# Altium integrated library adafruit.IntLib: 666 symbols (part 3 of 4)
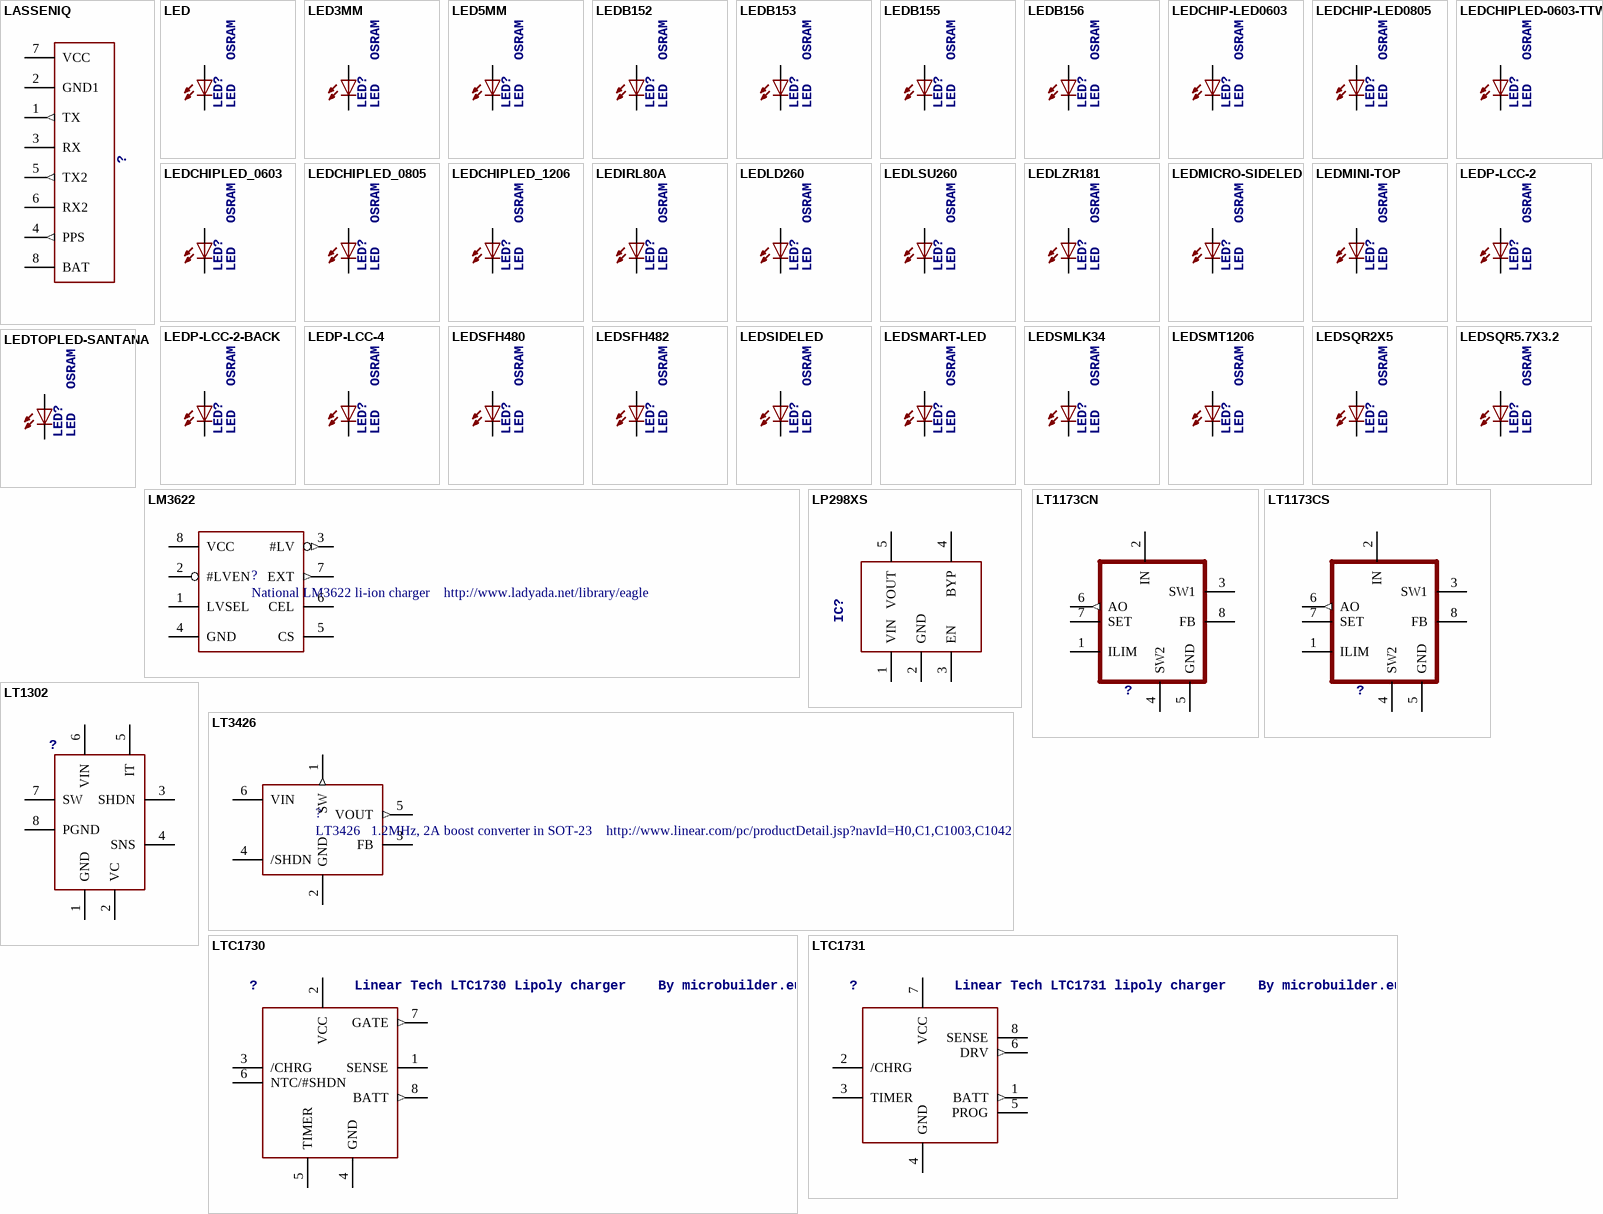
[diagram p33: symbols LASSENIQ to LTC1731]

## LEDP-LCC-4
designator LED?, comment LED   OSRAM: - CHIPLED LG R971, LG N971, LY N971, LG Q971, LY Q971, LO R971, LY R971 LH N974, LH R974 LS Q976, LO Q976, LY Q976 LO Q996 - Hyper CHIPLED LW Q18S LB Q993, LB Q99A, LB R99A - SideLED LS A670, LO A670, LY A670, LG A670, LP A670 LB A673, LV A673, LT A673, LW A673 LH A674 LY A675 LS A676, LA A676, LO A676, LY A676, LW A676 LS A679, LY A679, LG A679 -  Hyper Micro SIDELED® LS Y876, LA Y876, LO Y876, LY Y876 LT Y87S - SmartLED LW L88C, LW L88S LB L89C, LB L89S, LG L890 LS L89K, LO L89K, LY L89K LS L896, LA L896, LO L896, LY L896 - TOPLED LS T670, LO T670, LY T670, LG T670, LP T670 LSG T670, LSP T670, LSY T670, LOP T670, LYG T670 LG T671, LOG T671, LSG T671 LB T673, LV T673, LT T673, LW T673 LH T674 LS T676, LA T676, LO T676, LY T676, LB T676, LH T676, LSB T676, LW T676 LB T67C, LV T67C, LT T67C, LS T67K, LO T67K, LY T67K, LW E67C LS E67B, LA E67B, LO E67B, LY E67B, LB E67C, LV E67C, LT E67C LW T67C LS T679, LY T679, LG T679 LS T770, LO T770, LY T770, LG T770, LP T770 LB T773, LV T773, LT T773, LW T773 LH T774 LS E675, LA E675, LY E675, LS T675 LS T776, LA T776, LO T776, LY T776, LB T776 LHGB T686 LT T68C, LB T68C - Hyper Mini TOPLED® LB M676 - Mini TOPLED Santana® LG M470 LS M47K, LO M47K, LY M47K    Source: http://www.osram.convergy.de/
footprint P-LCC-4
pins: A, C@4 C

## LEDSFH480
designator LED?, comment LED   OSRAM: - CHIPLED LG R971, LG N971, LY N971, LG Q971, LY Q971, LO R971, LY R971 LH N974, LH R974 LS Q976, LO Q976, LY Q976 LO Q996 - Hyper CHIPLED LW Q18S LB Q993, LB Q99A, LB R99A - SideLED LS A670, LO A670, LY A670, LG A670, LP A670 LB A673, LV A673, LT A673, LW A673 LH A674 LY A675 LS A676, LA A676, LO A676, LY A676, LW A676 LS A679, LY A679, LG A679 -  Hyper Micro SIDELED® LS Y876, LA Y876, LO Y876, LY Y876 LT Y87S - SmartLED LW L88C, LW L88S LB L89C, LB L89S, LG L890 LS L89K, LO L89K, LY L89K LS L896, LA L896, LO L896, LY L896 - TOPLED LS T670, LO T670, LY T670, LG T670, LP T670 LSG T670, LSP T670, LSY T670, LOP T670, LYG T670 LG T671, LOG T671, LSG T671 LB T673, LV T673, LT T673, LW T673 LH T674 LS T676, LA T676, LO T676, LY T676, LB T676, LH T676, LSB T676, LW T676 LB T67C, LV T67C, LT T67C, LS T67K, LO T67K, LY T67K, LW E67C LS E67B, LA E67B, LO E67B, LY E67B, LB E67C, LV E67C, LT E67C LW T67C LS T679, LY T679, LG T679 LS T770, LO T770, LY T770, LG T770, LP T770 LB T773, LV T773, LT T773, LW T773 LH T774 LS E675, LA E675, LY E675, LS T675 LS T776, LA T776, LO T776, LY T776, LB T776 LHGB T686 LT T68C, LB T68C - Hyper Mini TOPLED® LB M676 - Mini TOPLED Santana® LG M470 LS M47K, LO M47K, LY M47K    Source: http://www.osram.convergy.de/
footprint SFH480
pins: A, K C

## LEDSFH482
designator LED?, comment LED   OSRAM: - CHIPLED LG R971, LG N971, LY N971, LG Q971, LY Q971, LO R971, LY R971 LH N974, LH R974 LS Q976, LO Q976, LY Q976 LO Q996 - Hyper CHIPLED LW Q18S LB Q993, LB Q99A, LB R99A - SideLED LS A670, LO A670, LY A670, LG A670, LP A670 LB A673, LV A673, LT A673, LW A673 LH A674 LY A675 LS A676, LA A676, LO A676, LY A676, LW A676 LS A679, LY A679, LG A679 -  Hyper Micro SIDELED® LS Y876, LA Y876, LO Y876, LY Y876 LT Y87S - SmartLED LW L88C, LW L88S LB L89C, LB L89S, LG L890 LS L89K, LO L89K, LY L89K LS L896, LA L896, LO L896, LY L896 - TOPLED LS T670, LO T670, LY T670, LG T670, LP T670 LSG T670, LSP T670, LSY T670, LOP T670, LYG T670 LG T671, LOG T671, LSG T671 LB T673, LV T673, LT T673, LW T673 LH T674 LS T676, LA T676, LO T676, LY T676, LB T676, LH T676, LSB T676, LW T676 LB T67C, LV T67C, LT T67C, LS T67K, LO T67K, LY T67K, LW E67C LS E67B, LA E67B, LO E67B, LY E67B, LB E67C, LV E67C, LT E67C LW T67C LS T679, LY T679, LG T679 LS T770, LO T770, LY T770, LG T770, LP T770 LB T773, LV T773, LT T773, LW T773 LH T774 LS E675, LA E675, LY E675, LS T675 LS T776, LA T776, LO T776, LY T776, LB T776 LHGB T686 LT T68C, LB T68C - Hyper Mini TOPLED® LB M676 - Mini TOPLED Santana® LG M470 LS M47K, LO M47K, LY M47K    Source: http://www.osram.convergy.de/
footprint SFH482
pins: A, K C

## LEDSIDELED
designator LED?, comment LED   OSRAM: - CHIPLED LG R971, LG N971, LY N971, LG Q971, LY Q971, LO R971, LY R971 LH N974, LH R974 LS Q976, LO Q976, LY Q976 LO Q996 - Hyper CHIPLED LW Q18S LB Q993, LB Q99A, LB R99A - SideLED LS A670, LO A670, LY A670, LG A670, LP A670 LB A673, LV A673, LT A673, LW A673 LH A674 LY A675 LS A676, LA A676, LO A676, LY A676, LW A676 LS A679, LY A679, LG A679 -  Hyper Micro SIDELED® LS Y876, LA Y876, LO Y876, LY Y876 LT Y87S - SmartLED LW L88C, LW L88S LB L89C, LB L89S, LG L890 LS L89K, LO L89K, LY L89K LS L896, LA L896, LO L896, LY L896 - TOPLED LS T670, LO T670, LY T670, LG T670, LP T670 LSG T670, LSP T670, LSY T670, LOP T670, LYG T670 LG T671, LOG T671, LSG T671 LB T673, LV T673, LT T673, LW T673 LH T674 LS T676, LA T676, LO T676, LY T676, LB T676, LH T676, LSB T676, LW T676 LB T67C, LV T67C, LT T67C, LS T67K, LO T67K, LY T67K, LW E67C LS E67B, LA E67B, LO E67B, LY E67B, LB E67C, LV E67C, LT E67C LW T67C LS T679, LY T679, LG T679 LS T770, LO T770, LY T770, LG T770, LP T770 LB T773, LV T773, LT T773, LW T773 LH T774 LS E675, LA E675, LY E675, LS T675 LS T776, LA T776, LO T776, LY T776, LB T776 LHGB T686 LT T68C, LB T68C - Hyper Mini TOPLED® LB M676 - Mini TOPLED Santana® LG M470 LS M47K, LO M47K, LY M47K    Source: http://www.osram.convergy.de/
footprint OSRAM-SIDELED
pins: A, C

## LEDSMART-LED
designator LED?, comment LED   OSRAM: - CHIPLED LG R971, LG N971, LY N971, LG Q971, LY Q971, LO R971, LY R971 LH N974, LH R974 LS Q976, LO Q976, LY Q976 LO Q996 - Hyper CHIPLED LW Q18S LB Q993, LB Q99A, LB R99A - SideLED LS A670, LO A670, LY A670, LG A670, LP A670 LB A673, LV A673, LT A673, LW A673 LH A674 LY A675 LS A676, LA A676, LO A676, LY A676, LW A676 LS A679, LY A679, LG A679 -  Hyper Micro SIDELED® LS Y876, LA Y876, LO Y876, LY Y876 LT Y87S - SmartLED LW L88C, LW L88S LB L89C, LB L89S, LG L890 LS L89K, LO L89K, LY L89K LS L896, LA L896, LO L896, LY L896 - TOPLED LS T670, LO T670, LY T670, LG T670, LP T670 LSG T670, LSP T670, LSY T670, LOP T670, LYG T670 LG T671, LOG T671, LSG T671 LB T673, LV T673, LT T673, LW T673 LH T674 LS T676, LA T676, LO T676, LY T676, LB T676, LH T676, LSB T676, LW T676 LB T67C, LV T67C, LT T67C, LS T67K, LO T67K, LY T67K, LW E67C LS E67B, LA E67B, LO E67B, LY E67B, LB E67C, LV E67C, LT E67C LW T67C LS T679, LY T679, LG T679 LS T770, LO T770, LY T770, LG T770, LP T770 LB T773, LV T773, LT T773, LW T773 LH T774 LS E675, LA E675, LY E675, LS T675 LS T776, LA T776, LO T776, LY T776, LB T776 LHGB T686 LT T68C, LB T68C - Hyper Mini TOPLED® LB M676 - Mini TOPLED Santana® LG M470 LS M47K, LO M47K, LY M47K    Source: http://www.osram.convergy.de/
footprint SMART-LED
pins: A, B C

## LEDSMLK34
designator LED?, comment LED   OSRAM: - CHIPLED LG R971, LG N971, LY N971, LG Q971, LY Q971, LO R971, LY R971 LH N974, LH R974 LS Q976, LO Q976, LY Q976 LO Q996 - Hyper CHIPLED LW Q18S LB Q993, LB Q99A, LB R99A - SideLED LS A670, LO A670, LY A670, LG A670, LP A670 LB A673, LV A673, LT A673, LW A673 LH A674 LY A675 LS A676, LA A676, LO A676, LY A676, LW A676 LS A679, LY A679, LG A679 -  Hyper Micro SIDELED® LS Y876, LA Y876, LO Y876, LY Y876 LT Y87S - SmartLED LW L88C, LW L88S LB L89C, LB L89S, LG L890 LS L89K, LO L89K, LY L89K LS L896, LA L896, LO L896, LY L896 - TOPLED LS T670, LO T670, LY T670, LG T670, LP T670 LSG T670, LSP T670, LSY T670, LOP T670, LYG T670 LG T671, LOG T671, LSG T671 LB T673, LV T673, LT T673, LW T673 LH T674 LS T676, LA T676, LO T676, LY T676, LB T676, LH T676, LSB T676, LW T676 LB T67C, LV T67C, LT T67C, LS T67K, LO T67K, LY T67K, LW E67C LS E67B, LA E67B, LO E67B, LY E67B, LB E67C, LV E67C, LT E67C LW T67C LS T679, LY T679, LG T679 LS T770, LO T770, LY T770, LG T770, LP T770 LB T773, LV T773, LT T773, LW T773 LH T774 LS E675, LA E675, LY E675, LS T675 LS T776, LA T776, LO T776, LY T776, LB T776 LHGB T686 LT T68C, LB T68C - Hyper Mini TOPLED® LB M676 - Mini TOPLED Santana® LG M470 LS M47K, LO M47K, LY M47K    Source: http://www.osram.convergy.de/
footprint SMLK34
pins: A, K C

## LEDSMT1206
designator LED?, comment LED   OSRAM: - CHIPLED LG R971, LG N971, LY N971, LG Q971, LY Q971, LO R971, LY R971 LH N974, LH R974 LS Q976, LO Q976, LY Q976 LO Q996 - Hyper CHIPLED LW Q18S LB Q993, LB Q99A, LB R99A - SideLED LS A670, LO A670, LY A670, LG A670, LP A670 LB A673, LV A673, LT A673, LW A673 LH A674 LY A675 LS A676, LA A676, LO A676, LY A676, LW A676 LS A679, LY A679, LG A679 -  Hyper Micro SIDELED® LS Y876, LA Y876, LO Y876, LY Y876 LT Y87S - SmartLED LW L88C, LW L88S LB L89C, LB L89S, LG L890 LS L89K, LO L89K, LY L89K LS L896, LA L896, LO L896, LY L896 - TOPLED LS T670, LO T670, LY T670, LG T670, LP T670 LSG T670, LSP T670, LSY T670, LOP T670, LYG T670 LG T671, LOG T671, LSG T671 LB T673, LV T673, LT T673, LW T673 LH T674 LS T676, LA T676, LO T676, LY T676, LB T676, LH T676, LSB T676, LW T676 LB T67C, LV T67C, LT T67C, LS T67K, LO T67K, LY T67K, LW E67C LS E67B, LA E67B, LO E67B, LY E67B, LB E67C, LV E67C, LT E67C LW T67C LS T679, LY T679, LG T679 LS T770, LO T770, LY T770, LG T770, LP T770 LB T773, LV T773, LT T773, LW T773 LH T774 LS E675, LA E675, LY E675, LS T675 LS T776, LA T776, LO T776, LY T776, LB T776 LHGB T686 LT T68C, LB T68C - Hyper Mini TOPLED® LB M676 - Mini TOPLED Santana® LG M470 LS M47K, LO M47K, LY M47K    Source: http://www.osram.convergy.de/
footprint 1206
pins: A, C

## LEDSQR2X5
designator LED?, comment LED   OSRAM: - CHIPLED LG R971, LG N971, LY N971, LG Q971, LY Q971, LO R971, LY R971 LH N974, LH R974 LS Q976, LO Q976, LY Q976 LO Q996 - Hyper CHIPLED LW Q18S LB Q993, LB Q99A, LB R99A - SideLED LS A670, LO A670, LY A670, LG A670, LP A670 LB A673, LV A673, LT A673, LW A673 LH A674 LY A675 LS A676, LA A676, LO A676, LY A676, LW A676 LS A679, LY A679, LG A679 -  Hyper Micro SIDELED® LS Y876, LA Y876, LO Y876, LY Y876 LT Y87S - SmartLED LW L88C, LW L88S LB L89C, LB L89S, LG L890 LS L89K, LO L89K, LY L89K LS L896, LA L896, LO L896, LY L896 - TOPLED LS T670, LO T670, LY T670, LG T670, LP T670 LSG T670, LSP T670, LSY T670, LOP T670, LYG T670 LG T671, LOG T671, LSG T671 LB T673, LV T673, LT T673, LW T673 LH T674 LS T676, LA T676, LO T676, LY T676, LB T676, LH T676, LSB T676, LW T676 LB T67C, LV T67C, LT T67C, LS T67K, LO T67K, LY T67K, LW E67C LS E67B, LA E67B, LO E67B, LY E67B, LB E67C, LV E67C, LT E67C LW T67C LS T679, LY T679, LG T679 LS T770, LO T770, LY T770, LG T770, LP T770 LB T773, LV T773, LT T773, LW T773 LH T774 LS E675, LA E675, LY E675, LS T675 LS T776, LA T776, LO T776, LY T776, LB T776 LHGB T686 LT T68C, LB T68C - Hyper Mini TOPLED® LB M676 - Mini TOPLED Santana® LG M470 LS M47K, LO M47K, LY M47K    Source: http://www.osram.convergy.de/
footprint LED2X5
pins: A, K C

## LEDSQR5.7X3.2
designator LED?, comment LED   OSRAM: - CHIPLED LG R971, LG N971, LY N971, LG Q971, LY Q971, LO R971, LY R971 LH N974, LH R974 LS Q976, LO Q976, LY Q976 LO Q996 - Hyper CHIPLED LW Q18S LB Q993, LB Q99A, LB R99A - SideLED LS A670, LO A670, LY A670, LG A670, LP A670 LB A673, LV A673, LT A673, LW A673 LH A674 LY A675 LS A676, LA A676, LO A676, LY A676, LW A676 LS A679, LY A679, LG A679 -  Hyper Micro SIDELED® LS Y876, LA Y876, LO Y876, LY Y876 LT Y87S - SmartLED LW L88C, LW L88S LB L89C, LB L89S, LG L890 LS L89K, LO L89K, LY L89K LS L896, LA L896, LO L896, LY L896 - TOPLED LS T670, LO T670, LY T670, LG T670, LP T670 LSG T670, LSP T670, LSY T670, LOP T670, LYG T670 LG T671, LOG T671, LSG T671 LB T673, LV T673, LT T673, LW T673 LH T674 LS T676, LA T676, LO T676, LY T676, LB T676, LH T676, LSB T676, LW T676 LB T67C, LV T67C, LT T67C, LS T67K, LO T67K, LY T67K, LW E67C LS E67B, LA E67B, LO E67B, LY E67B, LB E67C, LV E67C, LT E67C LW T67C LS T679, LY T679, LG T679 LS T770, LO T770, LY T770, LG T770, LP T770 LB T773, LV T773, LT T773, LW T773 LH T774 LS E675, LA E675, LY E675, LS T675 LS T776, LA T776, LO T776, LY T776, LB T776 LHGB T686 LT T68C, LB T68C - Hyper Mini TOPLED® LB M676 - Mini TOPLED Santana® LG M470 LS M47K, LO M47K, LY M47K    Source: http://www.osram.convergy.de/
footprint U57X32
pins: A, K C

## LEDTOPLED-SANTANA
designator LED?, comment LED   OSRAM: - CHIPLED LG R971, LG N971, LY N971, LG Q971, LY Q971, LO R971, LY R971 LH N974, LH R974 LS Q976, LO Q976, LY Q976 LO Q996 - Hyper CHIPLED LW Q18S LB Q993, LB Q99A, LB R99A - SideLED LS A670, LO A670, LY A670, LG A670, LP A670 LB A673, LV A673, LT A673, LW A673 LH A674 LY A675 LS A676, LA A676, LO A676, LY A676, LW A676 LS A679, LY A679, LG A679 -  Hyper Micro SIDELED® LS Y876, LA Y876, LO Y876, LY Y876 LT Y87S - SmartLED LW L88C, LW L88S LB L89C, LB L89S, LG L890 LS L89K, LO L89K, LY L89K LS L896, LA L896, LO L896, LY L896 - TOPLED LS T670, LO T670, LY T670, LG T670, LP T670 LSG T670, LSP T670, LSY T670, LOP T670, LYG T670 LG T671, LOG T671, LSG T671 LB T673, LV T673, LT T673, LW T673 LH T674 LS T676, LA T676, LO T676, LY T676, LB T676, LH T676, LSB T676, LW T676 LB T67C, LV T67C, LT T67C, LS T67K, LO T67K, LY T67K, LW E67C LS E67B, LA E67B, LO E67B, LY E67B, LB E67C, LV E67C, LT E67C LW T67C LS T679, LY T679, LG T679 LS T770, LO T770, LY T770, LG T770, LP T770 LB T773, LV T773, LT T773, LW T773 LH T774 LS E675, LA E675, LY E675, LS T675 LS T776, LA T776, LO T776, LY T776, LB T776 LHGB T686 LT T68C, LB T68C - Hyper Mini TOPLED® LB M676 - Mini TOPLED Santana® LG M470 LS M47K, LO M47K, LY M47K    Source: http://www.osram.convergy.de/
footprint MINI-TOPLED-SANTANA
pins: A, C

## LM3622
designator ?, comment National LM3622 li-ion charger    http://www.ladyada.net/library/eagle
footprint SO08
pins: 1 LVSEL, 2 #LVEN, 3 #LV (out), 4 GND (oe), 5 CS, 6 CEL, 7 EXT (out), 8 VCC (oe)

## LP298XS
designator IC?
footprint SOT23-5L
pins: 1 VIN, 2 GND, 3 EN, 4 BYP, 5 VOUT

## LT1173CN
designator ?
footprint DIL08
pins: 1 ILIM, 2 IN, 3 SW1, 4 SW2, 5 GND (power), 6 AO (out), 7 SET, 8 FB (oe)

## LT1173CS
designator ?
footprint SO08
pins: 1 ILIM, 2 IN, 3 SW1, 4 SW2, 5 GND (power), 6 AO (out), 7 SET, 8 FB (oe)

## LT1302
designator ?
footprint DIL08
pins: 1 GND, 2 VC, 3 SHDN, 4 SNS, 5 IT, 6 VIN, 7 SW, 8 PGND

## LT3426
designator ?, comment LT3426   1.2MHz, 2A boost converter in SOT-23    http://www.linear.com/pc/productDetail.jsp?navId=H0,C1,C1003,C1042,C1031,C1061,P8430 (Linear website)
footprint SOT23-6
pins: 1 SW (out), 2 GND (oe), 3 FB, 4 /SHDN, 5 VOUT (out), 6 VIN

## LTC1730
designator ?, comment Linear Tech LTC1730 Lipoly charger    By microbuilder.eu
footprint SO08
pins: 1 SENSE, 2 VCC (oe), 3 /CHRG, 4 GND (oe), 5 TIMER, 6 NTC/#SHDN, 7 GATE (out), 8 BATT (out)

## LTC1731
designator ?, comment Linear Tech LTC1731 lipoly charger    By microbuilder.eu
footprint SO08
pins: 1 BATT (out), 2 /CHRG, 3 TIMER, 4 GND (oe), 5 PROG, 6 DRV (out), 7 VCC (oe), 8 SENSE

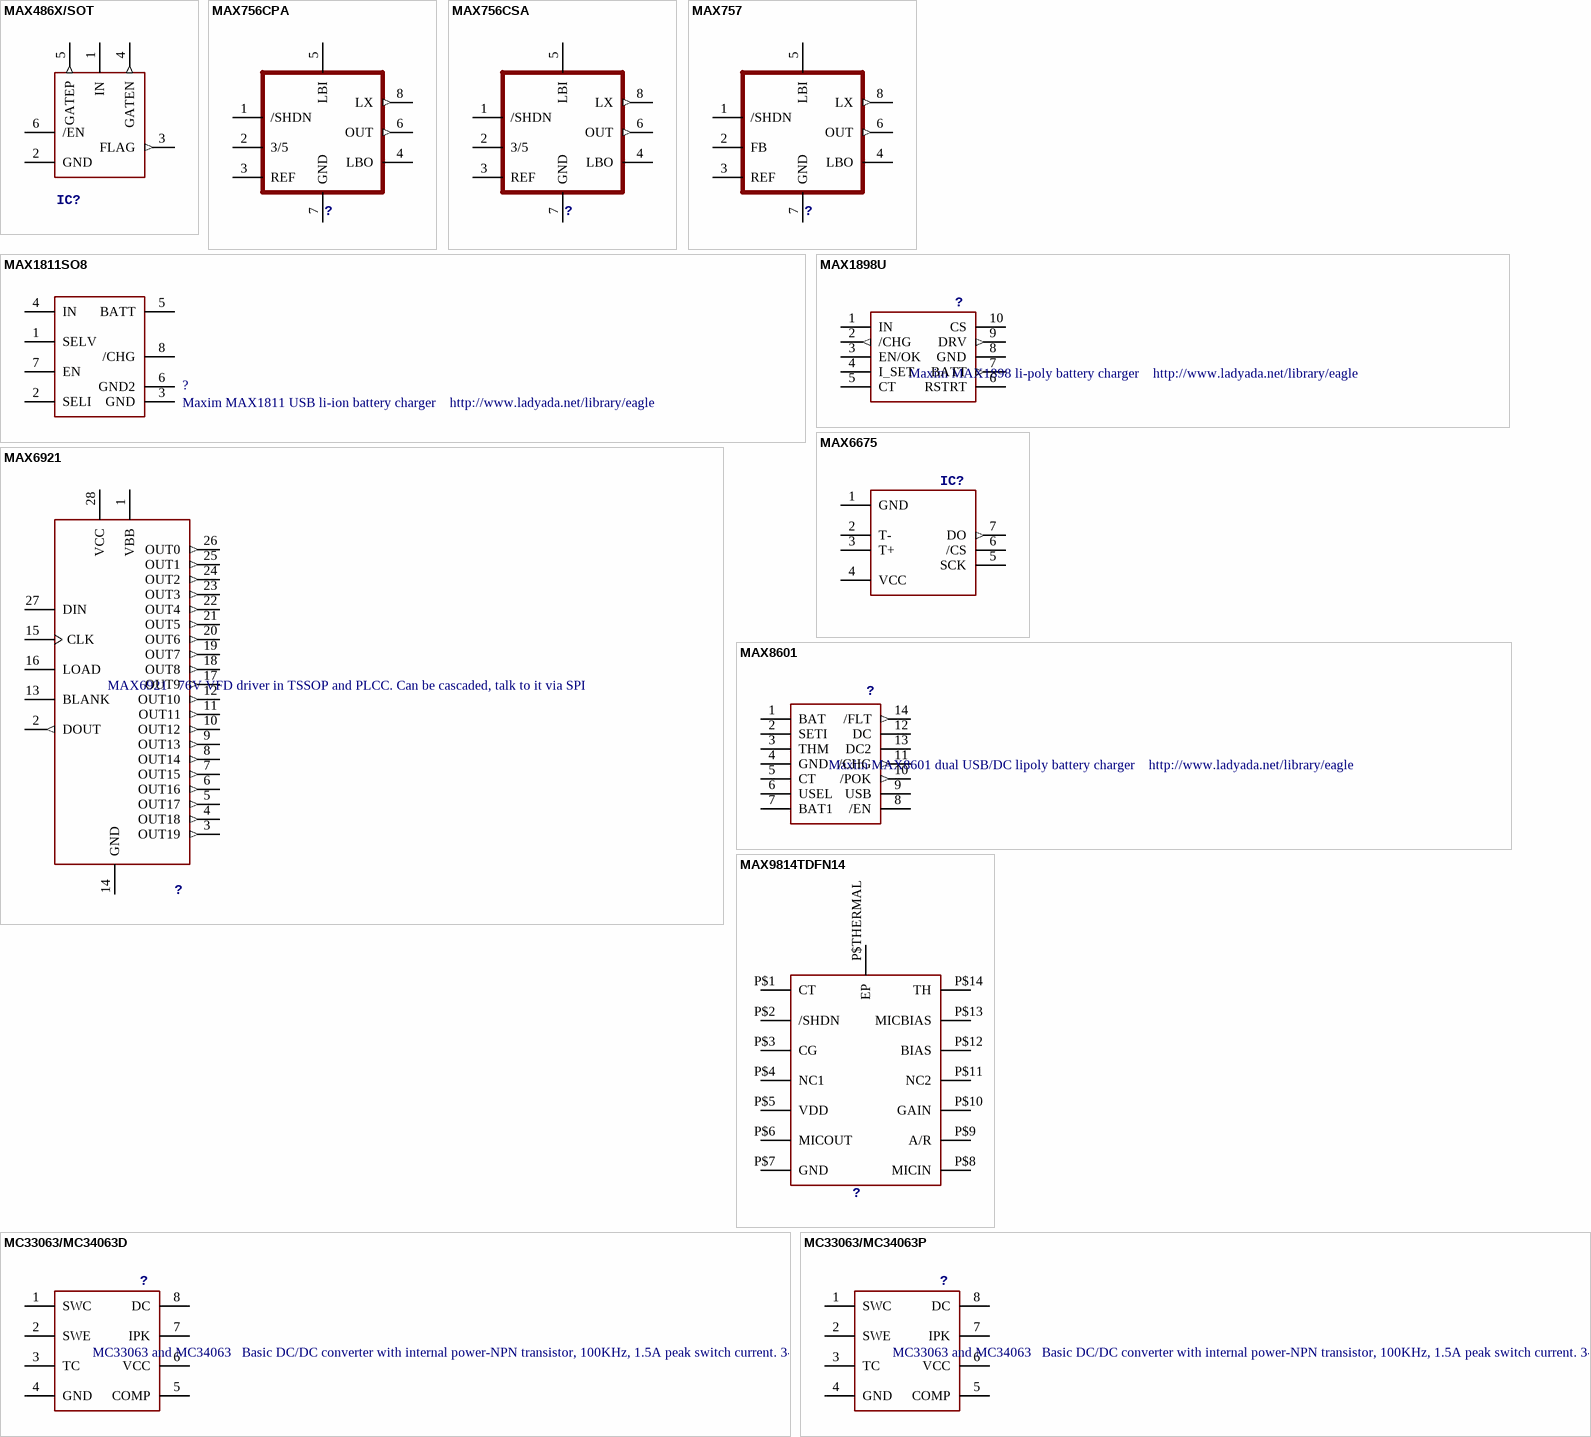
[diagram p20: symbols MAX486X/SOT to MC33063/MC34063P]

## MAX486X/SOT
designator IC?
footprint SOT23-6
pins: 1 IN, 2 GND (power), 3 FLAG (out), 4 GATEN (out), 5 GATEP (out), 6 /EN

## MAX756CPA
designator ?
footprint DIL08
pins: 1 /SHDN, 2 3/5, 3 REF, 4 LBO, 5 LBI, 6 OUT (out), 7 GND (power), 8 LX (out)

## MAX756CSA
designator ?
footprint SO08
pins: 1 /SHDN, 2 3/5, 3 REF, 4 LBO, 5 LBI, 6 OUT (out), 7 GND (power), 8 LX (out)

## MAX757
designator ?
footprint DIL08
pins: 1 /SHDN, 2 FB, 3 REF, 4 LBO, 5 LBI, 6 OUT (out), 7 GND (power), 8 LX (out)

## MAX1811SO8
designator ?, comment Maxim MAX1811 USB li-ion battery charger    http://www.ladyada.net/library/eagle
footprint SO08
pins: 1 SELV, 2 SELI, 3 GND, 4 IN, 5 BATT, 6 GND2, 7 EN, 8 /CHG

## MAX1898U
designator ?, comment Maxim MAX1898 li-poly battery charger    http://www.ladyada.net/library/eagle
footprint UMAX10
pins: 1 IN, 2 /CHG (out), 3 EN/OK, 4 I_SET, 5 CT, 6 RSTRT, 7 BATT (out), 8 GND (power), 9 DRV (out), 10 CS

## MAX6675
designator IC?
footprint SO08
pins: 1 GND (power), 2 T-, 3 T+, 4 VCC (power), 5 SCK, 6 /CS, 7 DO (out)

## MAX6921
designator ?, comment MAX6921   76V VFD driver in TSSOP and PLCC. Can be cascaded, talk to it via SPI
footprint PLCC-S28
pins: 1 VBB (oe), 2 DOUT (out), 3 OUT19 (out), 4 OUT18 (out), 5 OUT17 (out), 6 OUT16 (out), 7 OUT15 (out), 8 OUT14 (out), 9 OUT13 (out), 10 OUT12 (out), 11 OUT11 (out), 12 OUT10 (out), 13 BLANK, 14 GND (oe), 15 CLK, 16 LOAD, 17 OUT9 (out), 18 OUT8 (out), 19 OUT7 (out), 20 OUT6 (out), 21 OUT5 (out), 22 OUT4 (out), 23 OUT3 (out), 24 OUT2 (out), 25 OUT1 (out), 26 OUT0 (out), 27 DIN, 28 VCC (power)

## MAX8601
designator ?, comment Maxim MAX8601 dual USB/DC lipoly battery charger    http://www.ladyada.net/library/eagle
footprint TDFN14
pins: 1 BAT, 2 SETI, 3 THM, 4 GND (power), 5 CT, 6 USEL, 7 BAT1, 8 /EN, 9 USB, 10 /POK (out), 11 /CHG (out), 12 DC, 13 DC2, 14 /FLT (out)

## MAX9814TDFN14
designator ?
footprint TDFN14_3X3MM
pins: P$1 CT, P$2 /SHDN, P$3 CG, P$4 NC1, P$5 VDD, P$6 MICOUT, P$7 GND, P$8 MICIN, P$9 A/R, P$10 GAIN, P$11 NC2, P$12 BIAS, P$13 MICBIAS, P$14 TH, P$THERMAL EP

## MC33063/MC34063D
designator ?, comment MC33063 and MC34063   Basic DC/DC converter with internal power-NPN transistor, 100KHz, 1.5A peak switch current. 3-40 input/output.
footprint SO08
pins: 1 SWC, 2 SWE, 3 TC, 4 GND (power), 5 COMP, 6 VCC (power), 7 IPK, 8 DC

## MC33063/MC34063P
designator ?, comment MC33063 and MC34063   Basic DC/DC converter with internal power-NPN transistor, 100KHz, 1.5A peak switch current. 3-40 input/output.
footprint DIL08
pins: 1 SWC, 2 SWE, 3 TC, 4 GND (power), 5 COMP, 6 VCC (power), 7 IPK, 8 DC

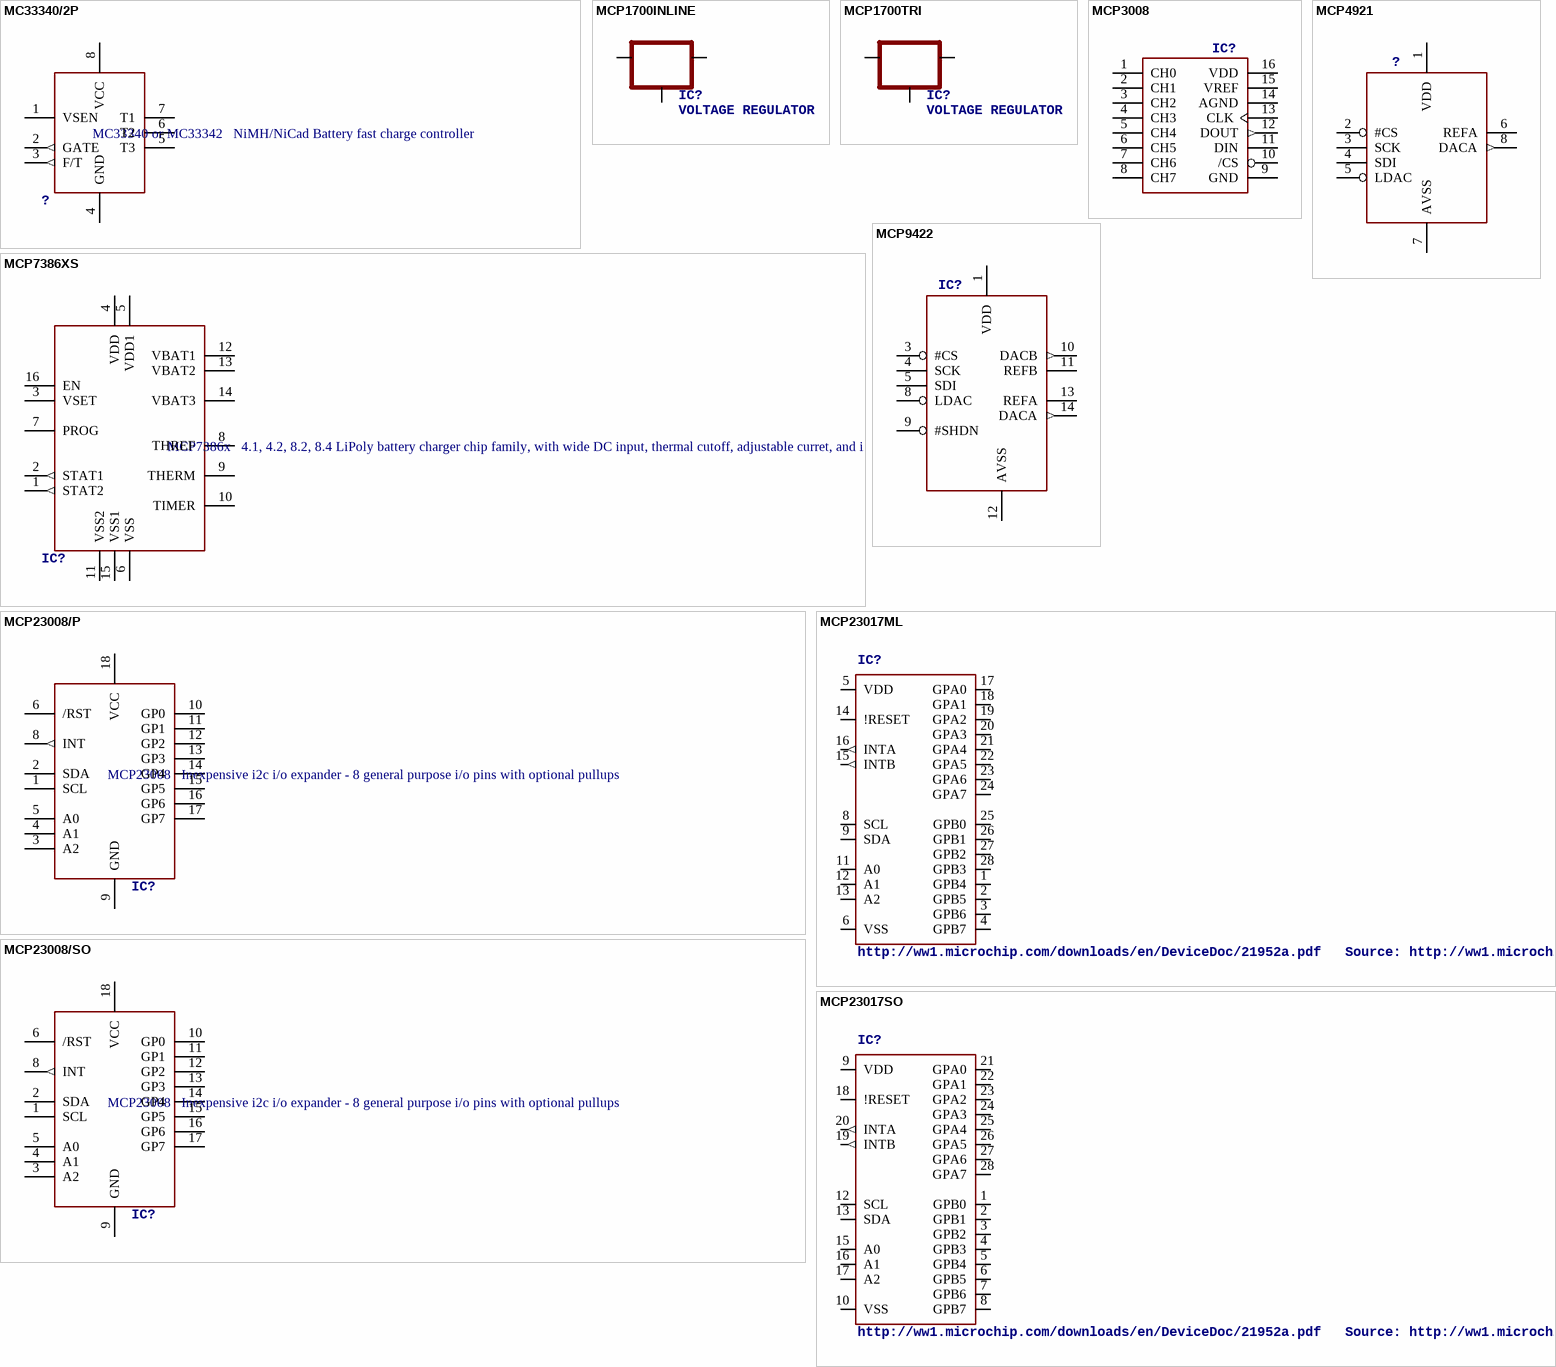
[diagram p21: symbols MC33340/2P to MCP23017SO]

## MC33340/2P
designator ?, comment MC33340 or MC33342   NiMH/NiCad Battery fast charge controller
footprint DIL08
pins: 1 VSEN, 2 GATE (out), 3 F/T (out), 4 GND (power), 5 T3, 6 T2, 7 T1, 8 VCC (power)

## MCP1700INLINE
designator IC?, comment VOLTAGE REGULATOR
footprint TO92-INLINE
pins: 1 GND, 2 IN, 3 OUT

## MCP1700TRI
designator IC?, comment VOLTAGE REGULATOR
footprint TO92
pins: 1 GND, 2 IN, 3 OUT

## MCP3008
designator IC?
footprint DIL16
pins: 1 CH0, 2 CH1, 3 CH2, 4 CH3, 5 CH4, 6 CH5, 7 CH6, 8 CH7, 9 GND (power), 10 /CS, 11 DIN, 12 DOUT (out), 13 CLK, 14 AGND (power), 15 VREF, 16 VDD (power)

## MCP4921
designator ?
footprint DIL08
pins: 1 VDD (oe), 2 #CS, 3 SCK, 4 SDI, 5 LDAC, 6 REFA, 7 AVSS (oe), 8 DACA (out)

## MCP7386XS
designator IC?, comment MCP7386x   4.1, 4.2, 8.2, 8.4 LiPoly battery charger chip family, with wide DC input, thermal cutoff, adjustable curret, and indicator LEDs
footprint SO16
pins: 1 STAT2 (out), 2 STAT1 (out), 3 VSET, 4 VDD (power), 5 VDD1 (power), 6 VSS (power), 7 PROG, 8 THREF, 9 THERM, 10 TIMER, 11 VSS2 (power), 12 VBAT1, 13 VBAT2, 14 VBAT3, 15 VSS1 (power), 16 EN

## MCP9422
designator IC?
footprint DIL14
pins: 1 VDD (oe), 3 #CS, 4 SCK, 5 SDI, 8 LDAC, 9 #SHDN, 10 DACB (out), 11 REFB, 12 AVSS (oe), 13 REFA, 14 DACA (out)

## MCP23008/P
designator IC?, comment MCP23008   Inexpensive i2c i/o expander - 8 general purpose i/o pins with optional pullups
footprint DIL18
pins: 1 SCL, 2 SDA, 3 A2, 4 A1, 5 A0, 6 /RST, 8 INT (out), 9 GND (power), 10 GP0, 11 GP1, 12 GP2, 13 GP3, 14 GP4, 15 GP5, 16 GP6, 17 GP7, 18 VCC (power)

## MCP23008/SO
designator IC?, comment MCP23008   Inexpensive i2c i/o expander - 8 general purpose i/o pins with optional pullups
footprint SO18W
pins: 1 SCL, 2 SDA, 3 A2, 4 A1, 5 A0, 6 /RST, 8 INT (out), 9 GND (power), 10 GP0, 11 GP1, 12 GP2, 13 GP3, 14 GP4, 15 GP5, 16 GP6, 17 GP7, 18 VCC (power)

## MCP23017ML
designator IC?, comment http://ww1.microchip.com/downloads/en/DeviceDoc/21952a.pdf   Source: http://ww1.microchip.com/downloads/en/DeviceDoc/21952a.pdf
footprint QFN28-ML_6X6MM
pins: 1 GPB4, 2 GPB5, 3 GPB6, 4 GPB7, 5 VDD (power), 6 VSS (power), 8 SCL, 9 SDA, 11 A0, 12 A1, 13 A2, 14 !RESET, 15 INTB (out), 16 INTA (out), 17 GPA0, 18 GPA1, 19 GPA2, 20 GPA3, 21 GPA4, 22 GPA5, 23 GPA6, 24 GPA7, 25 GPB0, 26 GPB1, 27 GPB2, 28 GPB3

## MCP23017SO
designator IC?, comment http://ww1.microchip.com/downloads/en/DeviceDoc/21952a.pdf   Source: http://ww1.microchip.com/downloads/en/DeviceDoc/21952a.pdf
footprint SO28W
pins: 1 GPB0, 2 GPB1, 3 GPB2, 4 GPB3, 5 GPB4, 6 GPB5, 7 GPB6, 8 GPB7, 9 VDD (power), 10 VSS (power), 12 SCL, 13 SDA, 15 A0, 16 A1, 17 A2, 18 !RESET, 19 INTB (out), 20 INTA (out), 21 GPA0, 22 GPA1, 23 GPA2, 24 GPA3, 25 GPA4, 26 GPA5, 27 GPA6, 28 GPA7

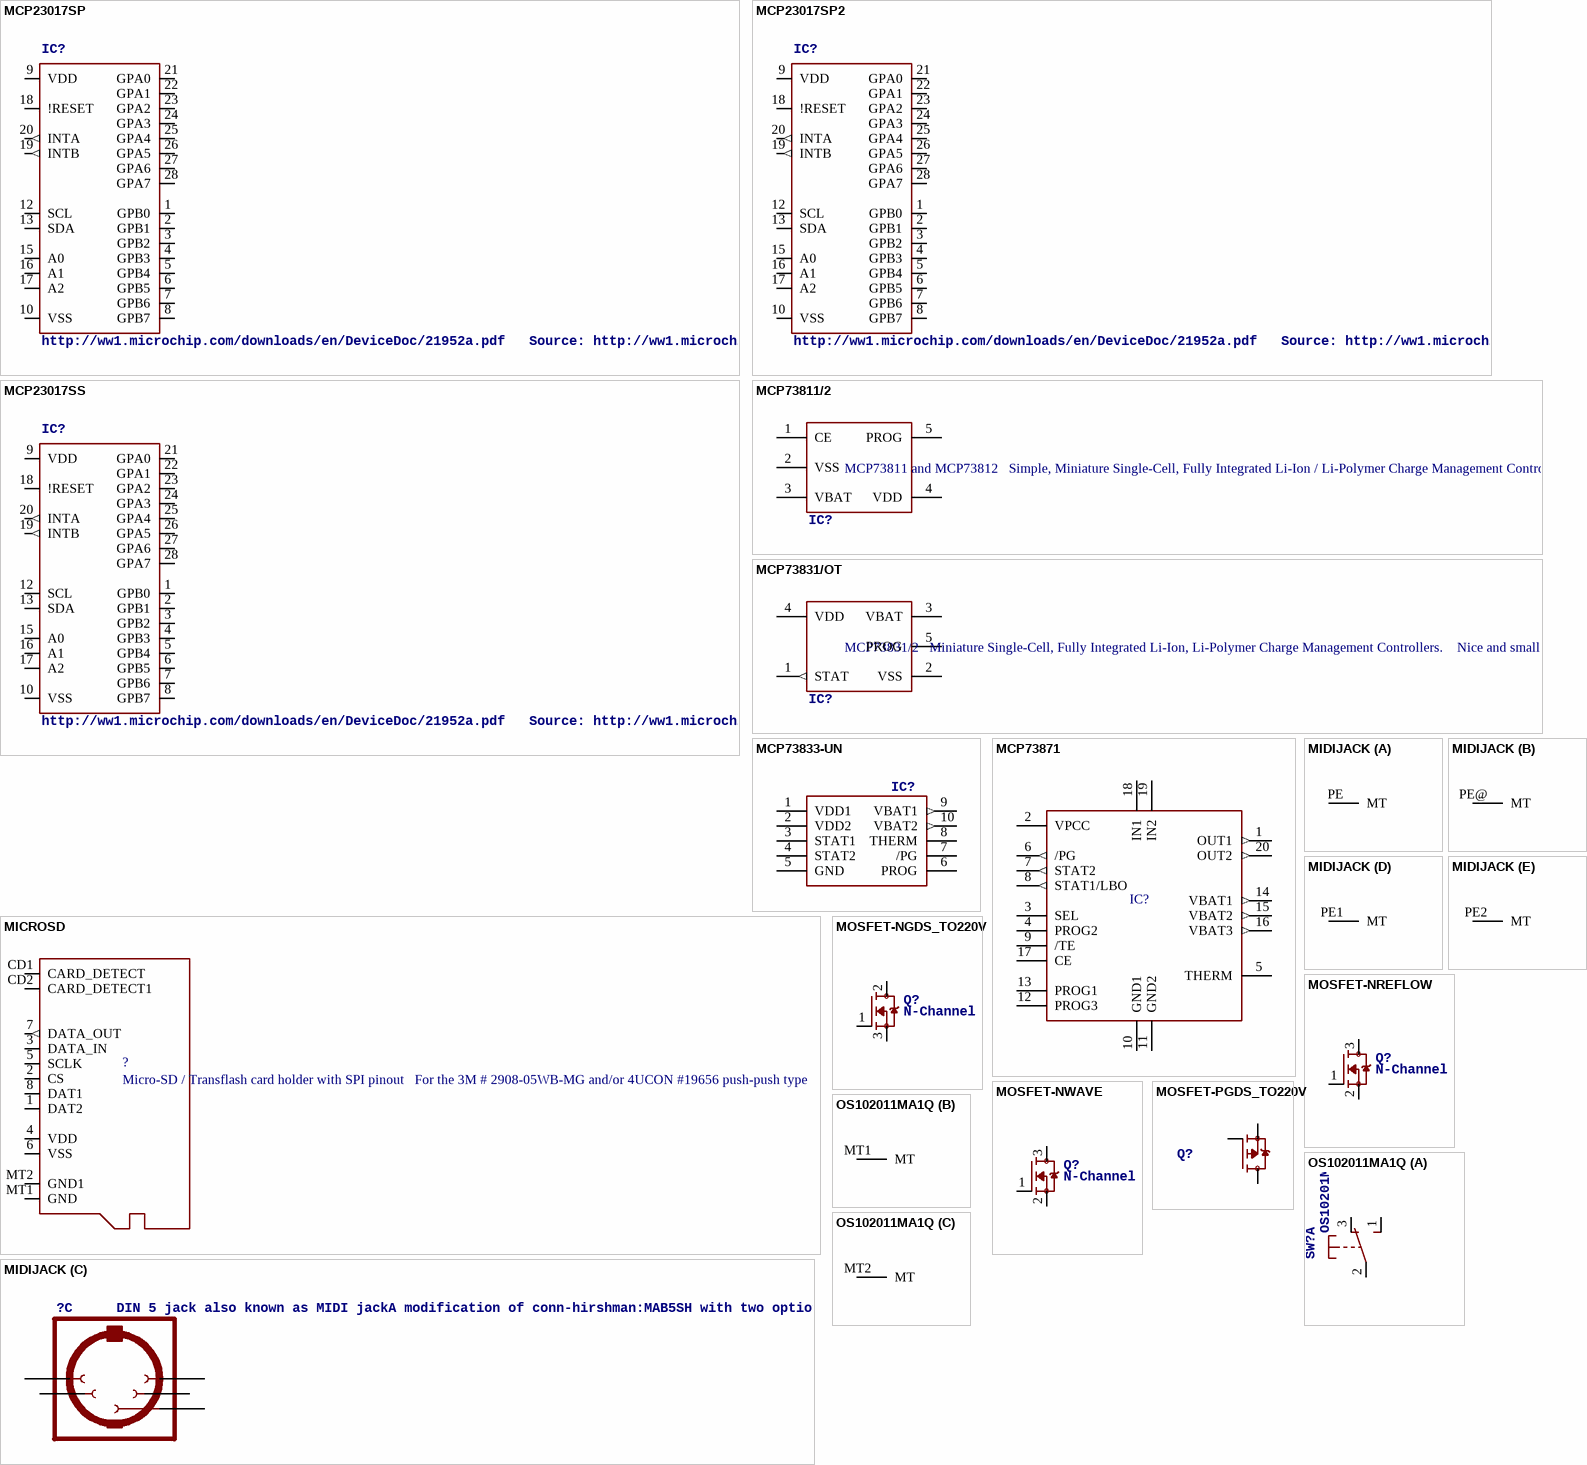
[diagram p22: symbols MCP23017SP to OS102011MA1Q]

## MCP23017SP
designator IC?, comment http://ww1.microchip.com/downloads/en/DeviceDoc/21952a.pdf   Source: http://ww1.microchip.com/downloads/en/DeviceDoc/21952a.pdf
footprint DIL28-3
pins: 1 GPB0, 2 GPB1, 3 GPB2, 4 GPB3, 5 GPB4, 6 GPB5, 7 GPB6, 8 GPB7, 9 VDD (power), 10 VSS (power), 12 SCL, 13 SDA, 15 A0, 16 A1, 17 A2, 18 !RESET, 19 INTB (out), 20 INTA (out), 21 GPA0, 22 GPA1, 23 GPA2, 24 GPA3, 25 GPA4, 26 GPA5, 27 GPA6, 28 GPA7

## MCP23017SP2
designator IC?, comment http://ww1.microchip.com/downloads/en/DeviceDoc/21952a.pdf   Source: http://ww1.microchip.com/downloads/en/DeviceDoc/21952a.pdf
footprint DIL28-3-ROUND
pins: 1 GPB0, 2 GPB1, 3 GPB2, 4 GPB3, 5 GPB4, 6 GPB5, 7 GPB6, 8 GPB7, 9 VDD (power), 10 VSS (power), 12 SCL, 13 SDA, 15 A0, 16 A1, 17 A2, 18 !RESET, 19 INTB (out), 20 INTA (out), 21 GPA0, 22 GPA1, 23 GPA2, 24 GPA3, 25 GPA4, 26 GPA5, 27 GPA6, 28 GPA7

## MCP23017SS
designator IC?, comment http://ww1.microchip.com/downloads/en/DeviceDoc/21952a.pdf   Source: http://ww1.microchip.com/downloads/en/DeviceDoc/21952a.pdf
footprint SSOP28
pins: 1 GPB0, 2 GPB1, 3 GPB2, 4 GPB3, 5 GPB4, 6 GPB5, 7 GPB6, 8 GPB7, 9 VDD (power), 10 VSS (power), 12 SCL, 13 SDA, 15 A0, 16 A1, 17 A2, 18 !RESET, 19 INTB (out), 20 INTA (out), 21 GPA0, 22 GPA1, 23 GPA2, 24 GPA3, 25 GPA4, 26 GPA5, 27 GPA6, 28 GPA7

## MCP73811/2
designator IC?, comment MCP73811 and MCP73812   Simple, Miniature Single-Cell, Fully Integrated Li-Ion / Li-Polymer Charge Management Controllers  SOT-23-5 package, no indicator LED but with adjustable current, small and very inexpensive
footprint SOT23-5L
pins: 1 CE, 2 VSS (power), 3 VBAT, 4 VDD (power), 5 PROG

## MCP73831/OT
designator IC?, comment MCP73831/2   Miniature Single-Cell, Fully Integrated Li-Ion, Li-Polymer Charge Management Controllers.    Nice and small simple lipoly charge controller, with adjustable current and status output (LED)    http://www.ladyada.net/library/pcb/eaglelibrary.html
footprint SOT23-5L
pins: 1 STAT (out), 2 VSS (power), 3 VBAT, 4 VDD (power), 5 PROG

## MCP73833-UN
designator IC?
footprint MSOP10
pins: 1 VDD1 (power), 2 VDD2 (power), 3 STAT1, 4 STAT2, 5 GND (power), 6 PROG, 7 /PG, 8 THERM, 9 VBAT1 (out), 10 VBAT2 (out)

## MCP73871
designator IC?
footprint QFN20
pins: 1 OUT1 (out), 2 VPCC, 3 SEL, 4 PROG2, 5 THERM, 6 /PG (out), 7 STAT2 (out), 8 STAT1/LBO (out), 9 /TE, 10 GND1 (power), 11 GND2 (power), 12 PROG3, 13 PROG1, 14 VBAT1 (out), 15 VBAT2 (out), 16 VBAT3 (out), 17 CE, 18 IN1, 19 IN2, 20 OUT2 (out)

## MICROSD
designator ?, comment Micro-SD / Transflash card holder with SPI pinout   For the 3M # 2908-05WB-MG and/or 4UCON #19656 push-push type
footprint MICROSD
pins: 1 DAT2, 2 CS, 3 DATA_IN, 4 VDD (oe), 5 SCLK, 6 VSS (oe), 7 DATA_OUT (out), 8 DAT1, CD1 CARD_DETECT, CD2 CARD_DETECT1, MT1 GND (oe), MT2 GND1 (oe)

## MIDIJACK
designator ?, comment DIN 5 jack also known as MIDI jackA modification of conn-hirshman:MAB5SH with two options for the grounding 'teeth'
footprint CP-2350
part A pins: PE MT
part B pins: PE@ MT
part C pins: 1, 2, 3, 4, 5
part D pins: PE1 MT
part E pins: PE2 MT

## MOSFET-NGDS_TO220V
designator Q?, comment N-Channel Mosfet 2N7002E - 60V 260mA SOT23 [Digikey: 2N7002ET1GOSTR-ND] - REEL  BSH103 - 30V 850mA SOT23 [Digikey: 568-5013-1-ND]
footprint TO220V
pins: 1 G, 2 D, 3 S

## MOSFET-NREFLOW
designator Q?, comment N-Channel Mosfet 2N7002E - 60V 260mA SOT23 [Digikey: 2N7002ET1GOSTR-ND] - REEL  BSH103 - 30V 850mA SOT23 [Digikey: 568-5013-1-ND]
footprint SOT23
pins: 1 G, 2 S, 3 D

## MOSFET-NWAVE
designator Q?, comment N-Channel Mosfet 2N7002E - 60V 260mA SOT23 [Digikey: 2N7002ET1GOSTR-ND] - REEL  BSH103 - 30V 850mA SOT23 [Digikey: 568-5013-1-ND]
footprint SOT23-W
pins: 1 G, 2 S, 3 D

## MOSFET-PGDS_TO220V
designator Q?
footprint TO220V
pins: 1 G, 2 D, 3 S

## OS102011MA1Q
designator SW?, comment OS10201MA1Q through-hole right angle switch    http://www.ladyada.net/library/eagle
footprint OS102011MA1Q
part A pins: 1 S, 2 P, 3 O
part B pins: MT1 MT
part C pins: MT2 MT

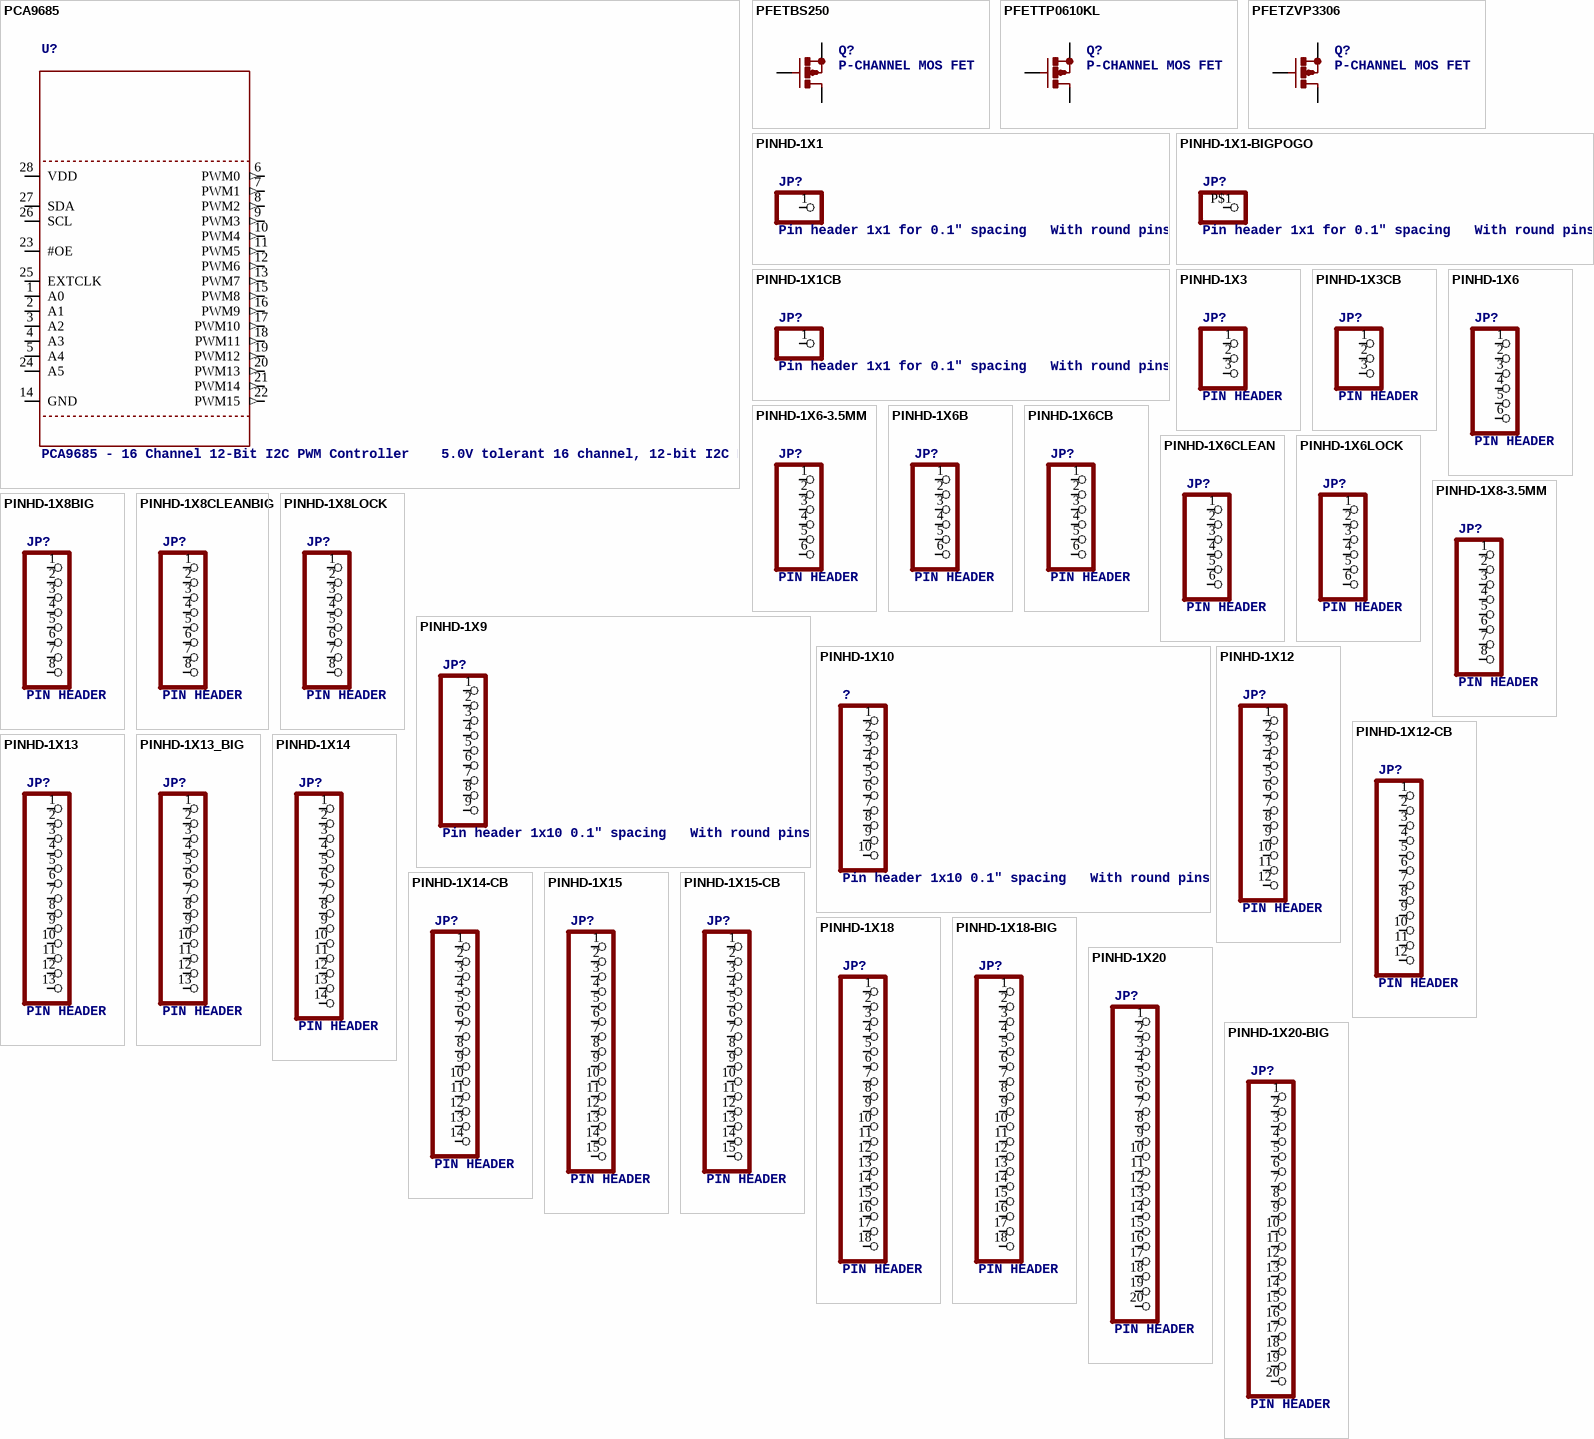
[diagram p23: symbols PCA9685 to PINHD-1X20-BIG]

## PCA9685
designator U?, comment PCA9685 - 16 Channel 12-Bit I2C PWM Controller    5.0V tolerant 16 channel, 12-bit I2C PWM controller with 25mA per output (max. 400mA total)   Digikey: 568-5931-1-ND
footprint TSSOP28
pins: 1 A0, 2 A1, 3 A2, 4 A3, 5 A4, 6 PWM0 (out), 7 PWM1 (out), 8 PWM2 (out), 9 PWM3 (out), 10 PWM4 (out), 11 PWM5 (out), 12 PWM6 (out), 13 PWM7 (out), 14 GND (power), 15 PWM8 (out), 16 PWM9 (out), 17 PWM10 (out), 18 PWM11 (out), 19 PWM12 (out), 20 PWM13 (out), 21 PWM14 (out), 22 PWM15 (out), 23 #OE, 24 A5, 25 EXTCLK, 26 SCL, 27 SDA, 28 VDD (power)

## PFETBS250
designator Q?, comment P-CHANNEL MOS FET
footprint TO92-OVAL
pins: 1 D, 2 G, 3 S

## PFETTP0610KL
designator Q?, comment P-CHANNEL MOS FET
footprint TO92-OVAL
pins: 1 S, 2 G, 3 D

## PFETZVP3306
designator Q?, comment P-CHANNEL MOS FET
footprint TO92-OVAL
pins: 1 S, 2 G, 3 D

## PINHD-1X1
designator JP?, comment Pin header 1x1 for 0.1" spacing   With round pins
footprint 1X01
pins: 1

## PINHD-1X1-BIGPOGO
designator JP?, comment Pin header 1x1 for 0.1" spacing   With round pins
footprint 1X1-BIGPOGO
pins: P$1 1

## PINHD-1X1CB
designator JP?, comment Pin header 1x1 for 0.1" spacing   With round pins
footprint 1X01-CLEANBIG
pins: 1

## PINHD-1X3
designator JP?, comment PIN HEADER
footprint 1X03
pins: 1, 2, 3

## PINHD-1X3CB
designator JP?, comment PIN HEADER
footprint 1X03-CLEANBIG
pins: 1, 2, 3

## PINHD-1X6
designator JP?, comment PIN HEADER
footprint 1X06
pins: 1, 2, 3, 4, 5, 6

## PINHD-1X6-3.5MM
designator JP?, comment PIN HEADER
footprint 1X06-3.5MM
pins: 1, 2, 3, 4, 5, 6

## PINHD-1X6B
designator JP?, comment PIN HEADER
footprint 1X06-BIG
pins: 1, 2, 3, 4, 5, 6

## PINHD-1X6CB
designator JP?, comment PIN HEADER
footprint 1X06-CLEANBIG
pins: 1, 2, 3, 4, 5, 6

## PINHD-1X6CLEAN
designator JP?, comment PIN HEADER
footprint 1X06-CLEAN
pins: 1, 2, 3, 4, 5, 6

## PINHD-1X6LOCK
designator JP?, comment PIN HEADER
footprint 1X06-BIGLOCK
pins: 1, 2, 3, 4, 5, 6

## PINHD-1X8-3.5MM
designator JP?, comment PIN HEADER
footprint 1X08-3.5MM
pins: 1, 2, 3, 4, 5, 6, 7, 8

## PINHD-1X8BIG
designator JP?, comment PIN HEADER
footprint 1X08-BIG
pins: 1, 2, 3, 4, 5, 6, 7, 8

## PINHD-1X8CLEANBIG
designator JP?, comment PIN HEADER
footprint 1X08-CLEANBIG
pins: 1, 2, 3, 4, 5, 6, 7, 8

## PINHD-1X8LOCK
designator JP?, comment PIN HEADER
footprint 1X08-LOCK
pins: 1, 2, 3, 4, 5, 6, 7, 8

## PINHD-1X9
designator JP?, comment Pin header 1x10 0.1" spacing   With round pins
footprint 1X09-BIG
pins: 1, 2, 3, 4, 5, 6, 7, 8, 9

## PINHD-1X10
designator ?, comment Pin header 1x10 0.1" spacing   With round pins
footprint 1X10-BIG
pins: 1, 2, 3, 4, 5, 6, 7, 8, 9, 10

## PINHD-1X12
designator JP?, comment PIN HEADER
footprint 1X12
pins: 1, 2, 3, 4, 5, 6, 7, 8, 9, 10, 11, 12

## PINHD-1X12-CB
designator JP?, comment PIN HEADER
footprint 1X12-CB
pins: 1, 2, 3, 4, 5, 6, 7, 8, 9, 10, 11, 12

## PINHD-1X13
designator JP?, comment PIN HEADER
footprint 1X13
pins: 1, 2, 3, 4, 5, 6, 7, 8, 9, 10, 11, 12, 13

## PINHD-1X13_BIG
designator JP?, comment PIN HEADER
footprint 1X13-BIG
pins: 1, 2, 3, 4, 5, 6, 7, 8, 9, 10, 11, 12, 13

## PINHD-1X14
designator JP?, comment PIN HEADER
footprint 1X14
pins: 1, 2, 3, 4, 5, 6, 7, 8, 9, 10, 11, 12, 13, 14

## PINHD-1X14-CB
designator JP?, comment PIN HEADER
footprint 1X14-CB
pins: 1, 2, 3, 4, 5, 6, 7, 8, 9, 10, 11, 12, 13, 14

## PINHD-1X15
designator JP?, comment PIN HEADER
footprint 1X15
pins: 1, 2, 3, 4, 5, 6, 7, 8, 9, 10, 11, 12, 13, 14, 15

## PINHD-1X15-CB
designator JP?, comment PIN HEADER
footprint 1X15-CB
pins: 1, 2, 3, 4, 5, 6, 7, 8, 9, 10, 11, 12, 13, 14, 15

## PINHD-1X18
designator JP?, comment PIN HEADER
footprint 1X18
pins: 1, 2, 3, 4, 5, 6, 7, 8, 9, 10, 11, 12, 13, 14, 15, 16, 17, 18

## PINHD-1X18-BIG
designator JP?, comment PIN HEADER
footprint 1X18-BIG
pins: 1, 2, 3, 4, 5, 6, 7, 8, 9, 10, 11, 12, 13, 14, 15, 16, 17, 18

## PINHD-1X20
designator JP?, comment PIN HEADER
footprint 1X20
pins: 1, 2, 3, 4, 5, 6, 7, 8, 9, 10, 11, 12, 13, 14, 15, 16, 17, 18, 19, 20

## PINHD-1X20-BIG
designator JP?, comment PIN HEADER
footprint 1X20-BIG
pins: 1, 2, 3, 4, 5, 6, 7, 8, 9, 10, 11, 12, 13, 14, 15, 16, 17, 18, 19, 20

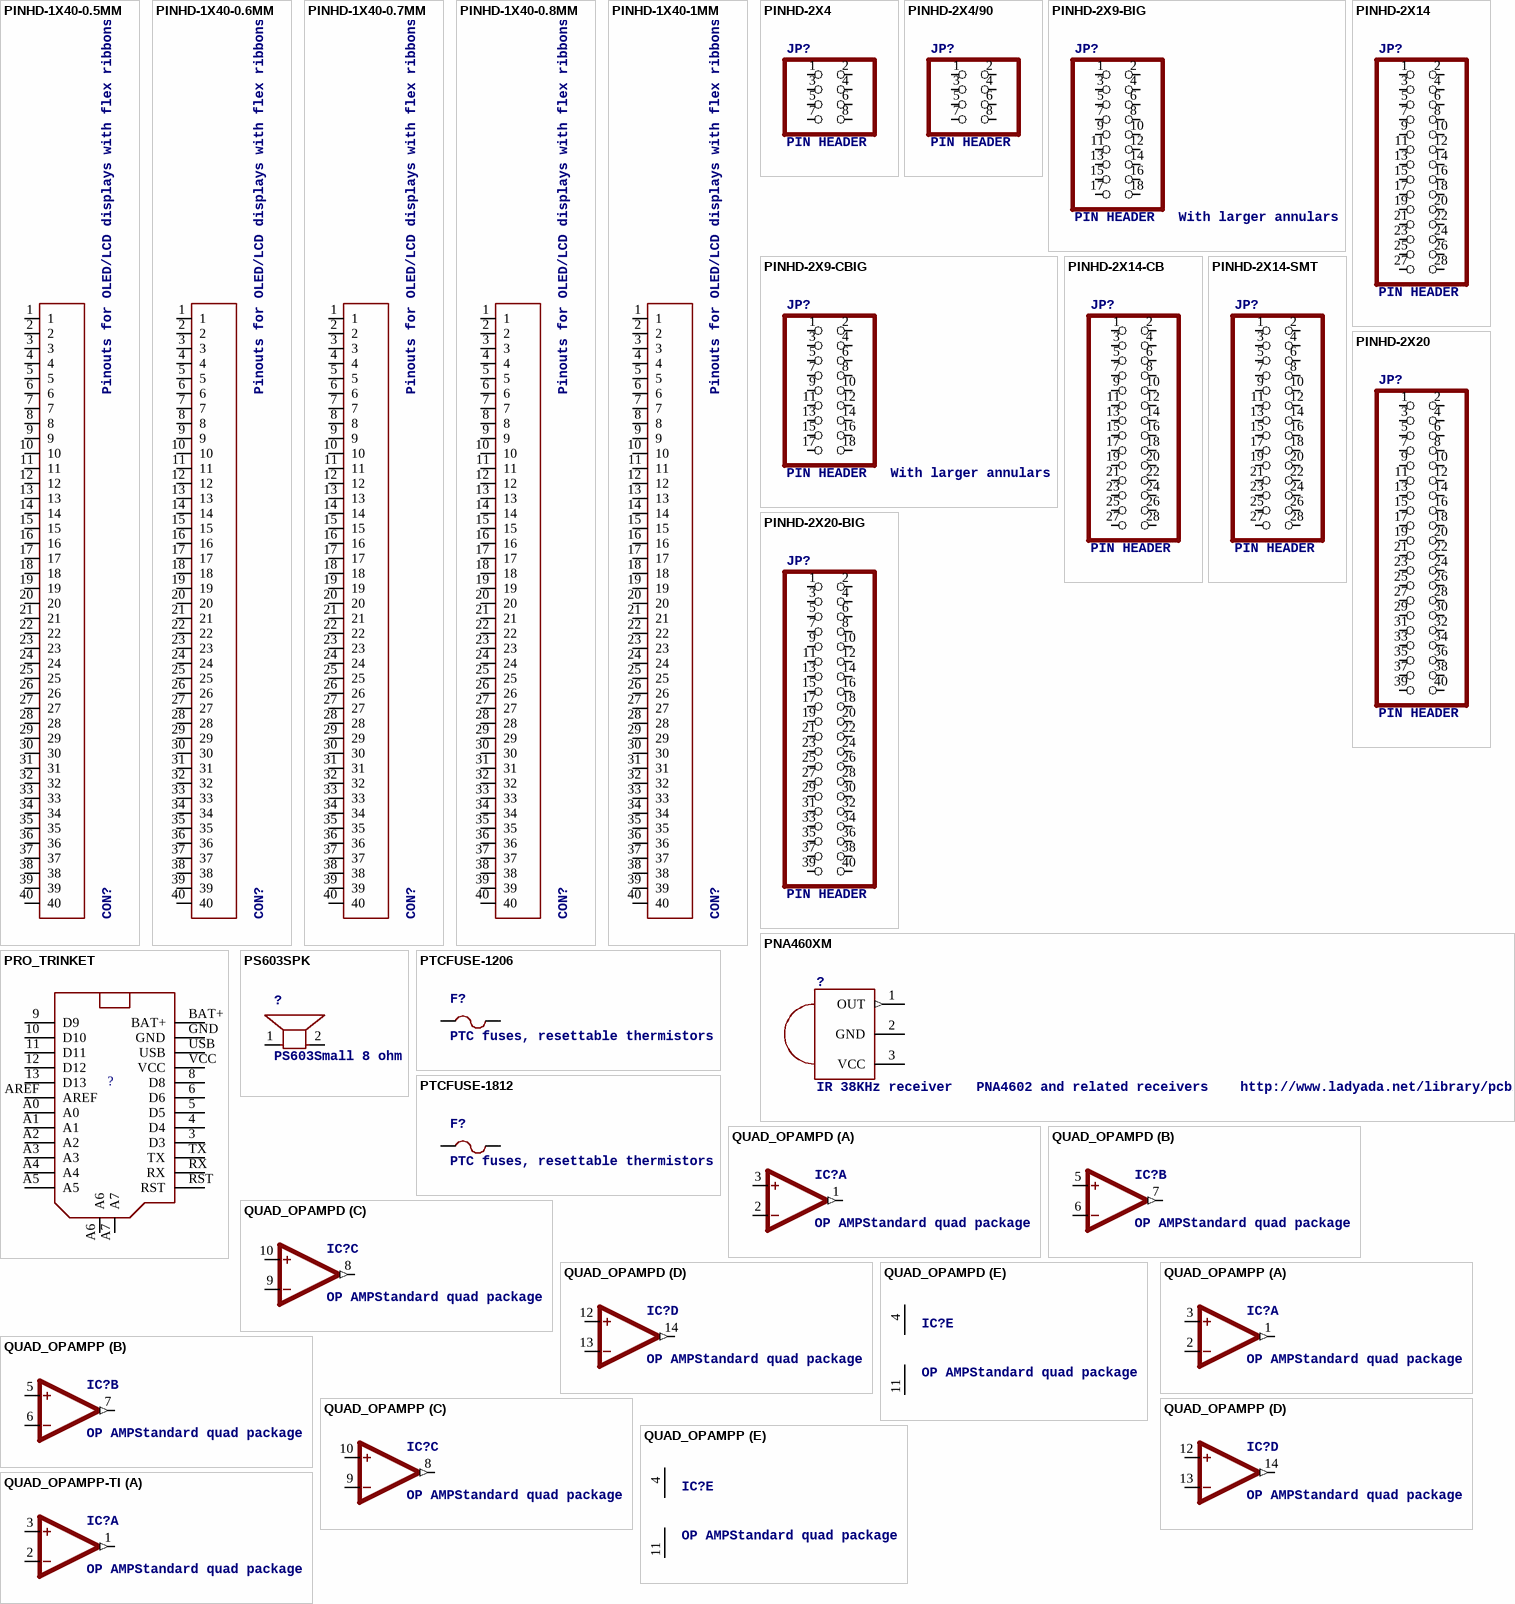
[diagram p24: symbols PINHD-1X40-0.5MM to QUAD_OPAMPP-TI]

## PINHD-1X40-0.5MM
designator CON?, comment Pinouts for OLED/LCD displays with flex ribbons
footprint 1X40-0.5MM
pins: 1, 2, 3, 4, 5, 6, 7, 8, 9, 10, 11, 12, 13, 14, 15, 16, 17, 18, 19, 20, 21, 22, 23, 24, 25, 26, 27, 28, 29, 30, 31, 32, 33, 34, 35, 36, 37, 38, 39, 40

## PINHD-1X40-0.6MM
designator CON?, comment Pinouts for OLED/LCD displays with flex ribbons
footprint 1X40-0.6MM
pins: 1, 2, 3, 4, 5, 6, 7, 8, 9, 10, 11, 12, 13, 14, 15, 16, 17, 18, 19, 20, 21, 22, 23, 24, 25, 26, 27, 28, 29, 30, 31, 32, 33, 34, 35, 36, 37, 38, 39, 40

## PINHD-1X40-0.7MM
designator CON?, comment Pinouts for OLED/LCD displays with flex ribbons
footprint 1X40-0.7MM
pins: 1, 2, 3, 4, 5, 6, 7, 8, 9, 10, 11, 12, 13, 14, 15, 16, 17, 18, 19, 20, 21, 22, 23, 24, 25, 26, 27, 28, 29, 30, 31, 32, 33, 34, 35, 36, 37, 38, 39, 40

## PINHD-1X40-0.8MM
designator CON?, comment Pinouts for OLED/LCD displays with flex ribbons
footprint 1X40-0.8MM
pins: 1, 2, 3, 4, 5, 6, 7, 8, 9, 10, 11, 12, 13, 14, 15, 16, 17, 18, 19, 20, 21, 22, 23, 24, 25, 26, 27, 28, 29, 30, 31, 32, 33, 34, 35, 36, 37, 38, 39, 40

## PINHD-1X40-1MM
designator CON?, comment Pinouts for OLED/LCD displays with flex ribbons
footprint 1X40-1MM
pins: 1, 2, 3, 4, 5, 6, 7, 8, 9, 10, 11, 12, 13, 14, 15, 16, 17, 18, 19, 20, 21, 22, 23, 24, 25, 26, 27, 28, 29, 30, 31, 32, 33, 34, 35, 36, 37, 38, 39, 40

## PINHD-2X4
designator JP?, comment PIN HEADER
footprint 2X04
pins: 1, 2, 3, 4, 5, 6, 7, 8

## PINHD-2X4/90
designator JP?, comment PIN HEADER
footprint 2X04/90
pins: 1, 2, 3, 4, 5, 6, 7, 8

## PINHD-2X9-BIG
designator JP?, comment PIN HEADER   With larger annulars
footprint 2X09-BIG
pins: 1, 2, 3, 4, 5, 6, 7, 8, 9, 10, 11, 12, 13, 14, 15, 16, 17, 18

## PINHD-2X9-CBIG
designator JP?, comment PIN HEADER   With larger annulars
footprint 2X09-CLEANBIG
pins: 1, 2, 3, 4, 5, 6, 7, 8, 9, 10, 11, 12, 13, 14, 15, 16, 17, 18

## PINHD-2X14
designator JP?, comment PIN HEADER
footprint 2X14
pins: 1, 2, 3, 4, 5, 6, 7, 8, 9, 10, 11, 12, 13, 14, 15, 16, 17, 18, 19, 20, 21, 22, 23, 24, 25, 26, 27, 28

## PINHD-2X14-CB
designator JP?, comment PIN HEADER
footprint 2X14-CLEANBIG
pins: 1, 2, 3, 4, 5, 6, 7, 8, 9, 10, 11, 12, 13, 14, 15, 16, 17, 18, 19, 20, 21, 22, 23, 24, 25, 26, 27, 28

## PINHD-2X14-SMT
designator JP?, comment PIN HEADER
footprint 2X14-SMT
pins: 1, 2, 3, 4, 5, 6, 7, 8, 9, 10, 11, 12, 13, 14, 15, 16, 17, 18, 19, 20, 21, 22, 23, 24, 25, 26, 27, 28

## PINHD-2X20
designator JP?, comment PIN HEADER
footprint 2X20
pins: 1, 2, 3, 4, 5, 6, 7, 8, 9, 10, 11, 12, 13, 14, 15, 16, 17, 18, 19, 20, 21, 22, 23, 24, 25, 26, 27, 28, 29, 30, 31, 32, 33, 34, 35, 36, 37, 38, 39, 40

## PINHD-2X20-BIG
designator JP?, comment PIN HEADER
footprint 2X20-BIG
pins: 1, 2, 3, 4, 5, 6, 7, 8, 9, 10, 11, 12, 13, 14, 15, 16, 17, 18, 19, 20, 21, 22, 23, 24, 25, 26, 27, 28, 29, 30, 31, 32, 33, 34, 35, 36, 37, 38, 39, 40

## PNA460XM
designator ?, comment IR 38KHz receiver   PNA4602 and related receivers    http://www.ladyada.net/library/pcb/eaglelibrary.html
footprint PNA460XM
pins: 1 OUT (out), 2 GND (power), 3 VCC (power)

## PRO_TRINKET
designator ?
footprint PROTRINKET
pins: 3 D3, 4 D4, 5 D5, 6 D6, 8 D8, 9 D9, 10 D10, 11 D11, 12 D12, 13 D13, A0, A1, A2, A3, A4, A5, A6, A7, AREF, BAT+ (power), GND (power), RST, RX, TX, USB (power), VCC (power)

## PS603SPK
designator ?, comment PS603Small 8 ohm speaker, from Mouser. Can SMT solder to board    http://www.ladyada.net/library/pcb/eaglelibrary.html
footprint PS603
pins: 1, 2

## PTCFUSE-1206
designator F?, comment PTC fuses, resettable thermistors
footprint R1206
pins: 1, 2

## PTCFUSE-1812
designator F?, comment PTC fuses, resettable thermistors
footprint 1812
pins: 1, 2

## QUAD_OPAMPD
designator IC?, comment OP AMPStandard quad package
footprint SO14
part A pins: 1 OUT (out), 2 -IN, 3 +IN
part B pins: 5 +IN, 6 -IN, 7 OUT (out)
part C pins: 8 OUT (out), 9 -IN, 10 +IN
part D pins: 12 +IN, 13 -IN, 14 OUT (out)
part E pins: 4 V+ (power), 11 V- (power)

## QUAD_OPAMPP
designator IC?, comment OP AMPStandard quad package
footprint DIL14
part A pins: 1 OUT (out), 2 -IN, 3 +IN
part B pins: 5 +IN, 6 -IN, 7 OUT (out)
part C pins: 8 OUT (out), 9 -IN, 10 +IN
part D pins: 12 +IN, 13 -IN, 14 OUT (out)
part E pins: 4 V+ (power), 11 V- (power)

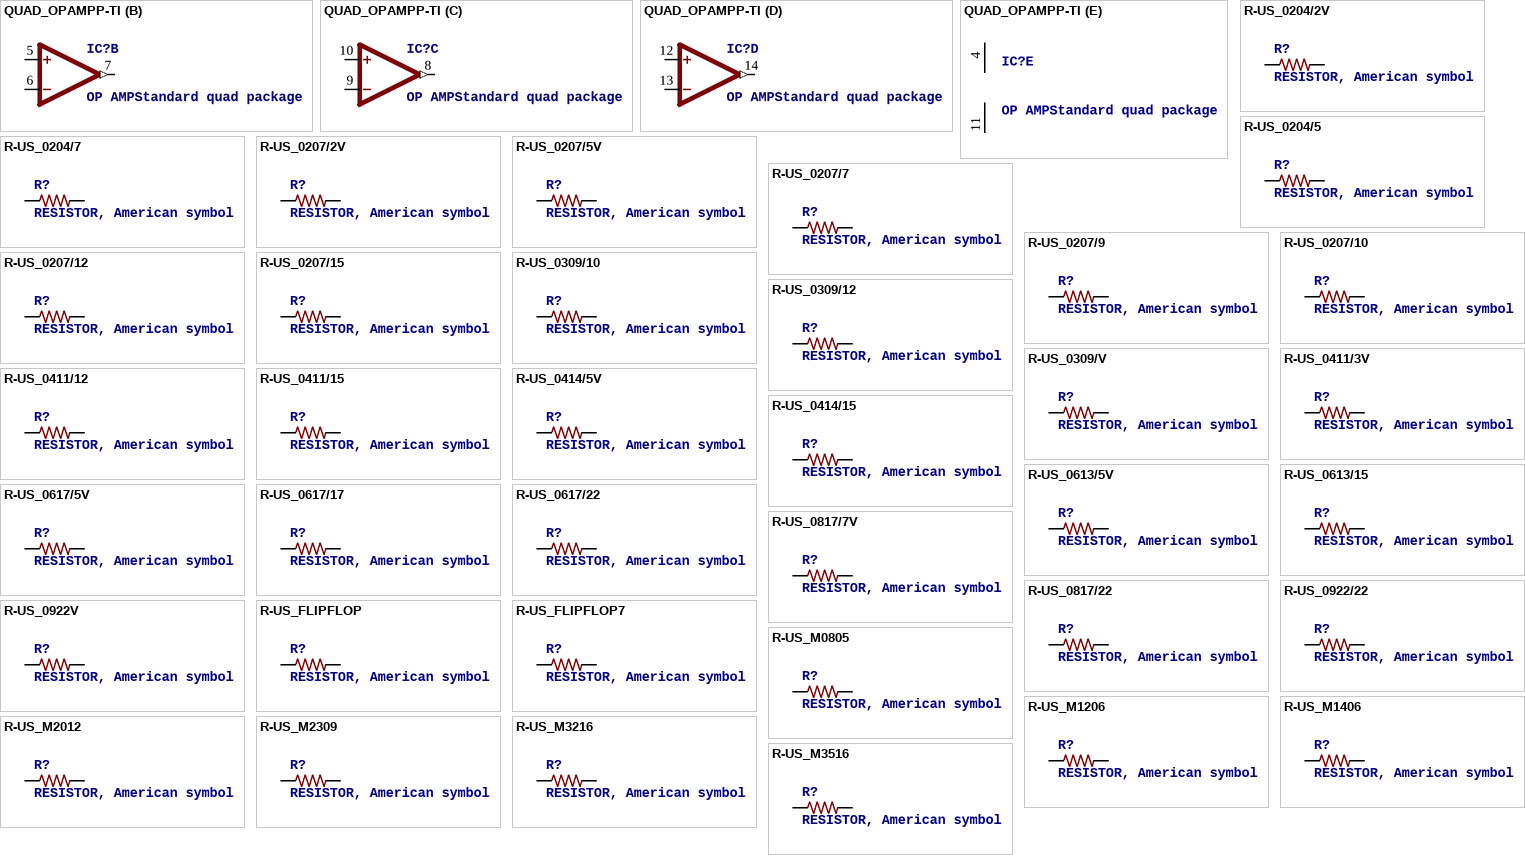
[diagram p25: symbols QUAD_OPAMPP-TI to R-US_M3516]

## QUAD_OPAMPP-TI
designator IC?, comment OP AMPStandard quad package
footprint DIL14-LARDO
part A pins: 1 OUT (out), 2 -IN, 3 +IN
part B pins: 5 +IN, 6 -IN, 7 OUT (out)
part C pins: 8 OUT (out), 9 -IN, 10 +IN
part D pins: 12 +IN, 13 -IN, 14 OUT (out)
part E pins: 4 V+ (power), 11 V- (power)

## R-US_0204/2V
designator R?, comment RESISTOR, American symbol
footprint 0204V
pins: 1, 2

## R-US_0204/5
designator R?, comment RESISTOR, American symbol
footprint 0204/5
pins: 1, 2

## R-US_0204/7
designator R?, comment RESISTOR, American symbol
footprint 0204/7
pins: 1, 2

## R-US_0207/2V
designator R?, comment RESISTOR, American symbol
footprint 0207/2V
pins: 1, 2

## R-US_0207/5V
designator R?, comment RESISTOR, American symbol
footprint 0207/5V
pins: 1, 2

## R-US_0207/7
designator R?, comment RESISTOR, American symbol
footprint 0207/7
pins: 1, 2

## R-US_0207/9
designator R?, comment RESISTOR, American symbol
footprint 0207/9
pins: 1, 2

## R-US_0207/10
designator R?, comment RESISTOR, American symbol
footprint 0207/10
pins: 1, 2

## R-US_0207/12
designator R?, comment RESISTOR, American symbol
footprint 0207/12
pins: 1, 2

## R-US_0207/15
designator R?, comment RESISTOR, American symbol
footprint 0207/15
pins: 1, 2

## R-US_0309/10
designator R?, comment RESISTOR, American symbol
footprint 0309/10
pins: 1, 2

## R-US_0309/12
designator R?, comment RESISTOR, American symbol
footprint 0309/12
pins: 1, 2

## R-US_0309/V
designator R?, comment RESISTOR, American symbol
footprint 0309V
pins: 1, 2

## R-US_0411/3V
designator R?, comment RESISTOR, American symbol
footprint 0411V
pins: 1, 2

## R-US_0411/12
designator R?, comment RESISTOR, American symbol
footprint 0411/12
pins: 1, 2

## R-US_0411/15
designator R?, comment RESISTOR, American symbol
footprint 0411/15
pins: 1, 2

## R-US_0414/5V
designator R?, comment RESISTOR, American symbol
footprint 0414V
pins: 1, 2

## R-US_0414/15
designator R?, comment RESISTOR, American symbol
footprint 0414/15
pins: 1, 2

## R-US_0613/5V
designator R?, comment RESISTOR, American symbol
footprint P0613V
pins: 1, 2

## R-US_0613/15
designator R?, comment RESISTOR, American symbol
footprint P0613/15
pins: 1, 2

## R-US_0617/5V
designator R?, comment RESISTOR, American symbol
footprint 0617V
pins: 1, 2

## R-US_0617/17
designator R?, comment RESISTOR, American symbol
footprint 0617/17
pins: 1, 2

## R-US_0617/22
designator R?, comment RESISTOR, American symbol
footprint 0617/22
pins: 1, 2

## R-US_0817/7V
designator R?, comment RESISTOR, American symbol
footprint P0817V
pins: 1, 2

## R-US_0817/22
designator R?, comment RESISTOR, American symbol
footprint P0817/22
pins: 1, 2

## R-US_0922/22
designator R?, comment RESISTOR, American symbol
footprint 0922/22
pins: 1, 2

## R-US_0922V
designator R?, comment RESISTOR, American symbol
footprint 0922V
pins: 1, 2

## R-US_FLIPFLOP
designator R?, comment RESISTOR, American symbol
footprint 0805-THM
pins: 1, 2

## R-US_FLIPFLOP7
designator R?, comment RESISTOR, American symbol
footprint 0805-THM-7
pins: 1, 2

## R-US_M0805
designator R?, comment RESISTOR, American symbol
footprint M0805
pins: 1, 2

## R-US_M1206
designator R?, comment RESISTOR, American symbol
footprint M1206
pins: 1, 2

## R-US_M1406
designator R?, comment RESISTOR, American symbol
footprint M1406
pins: 1, 2

## R-US_M2012
designator R?, comment RESISTOR, American symbol
footprint M2012
pins: 1, 2

## R-US_M2309
designator R?, comment RESISTOR, American symbol
footprint M2309
pins: 1, 2

## R-US_M3216
designator R?, comment RESISTOR, American symbol
footprint M3216
pins: 1, 2

## R-US_M3516
designator R?, comment RESISTOR, American symbol
footprint M3516
pins: 1, 2

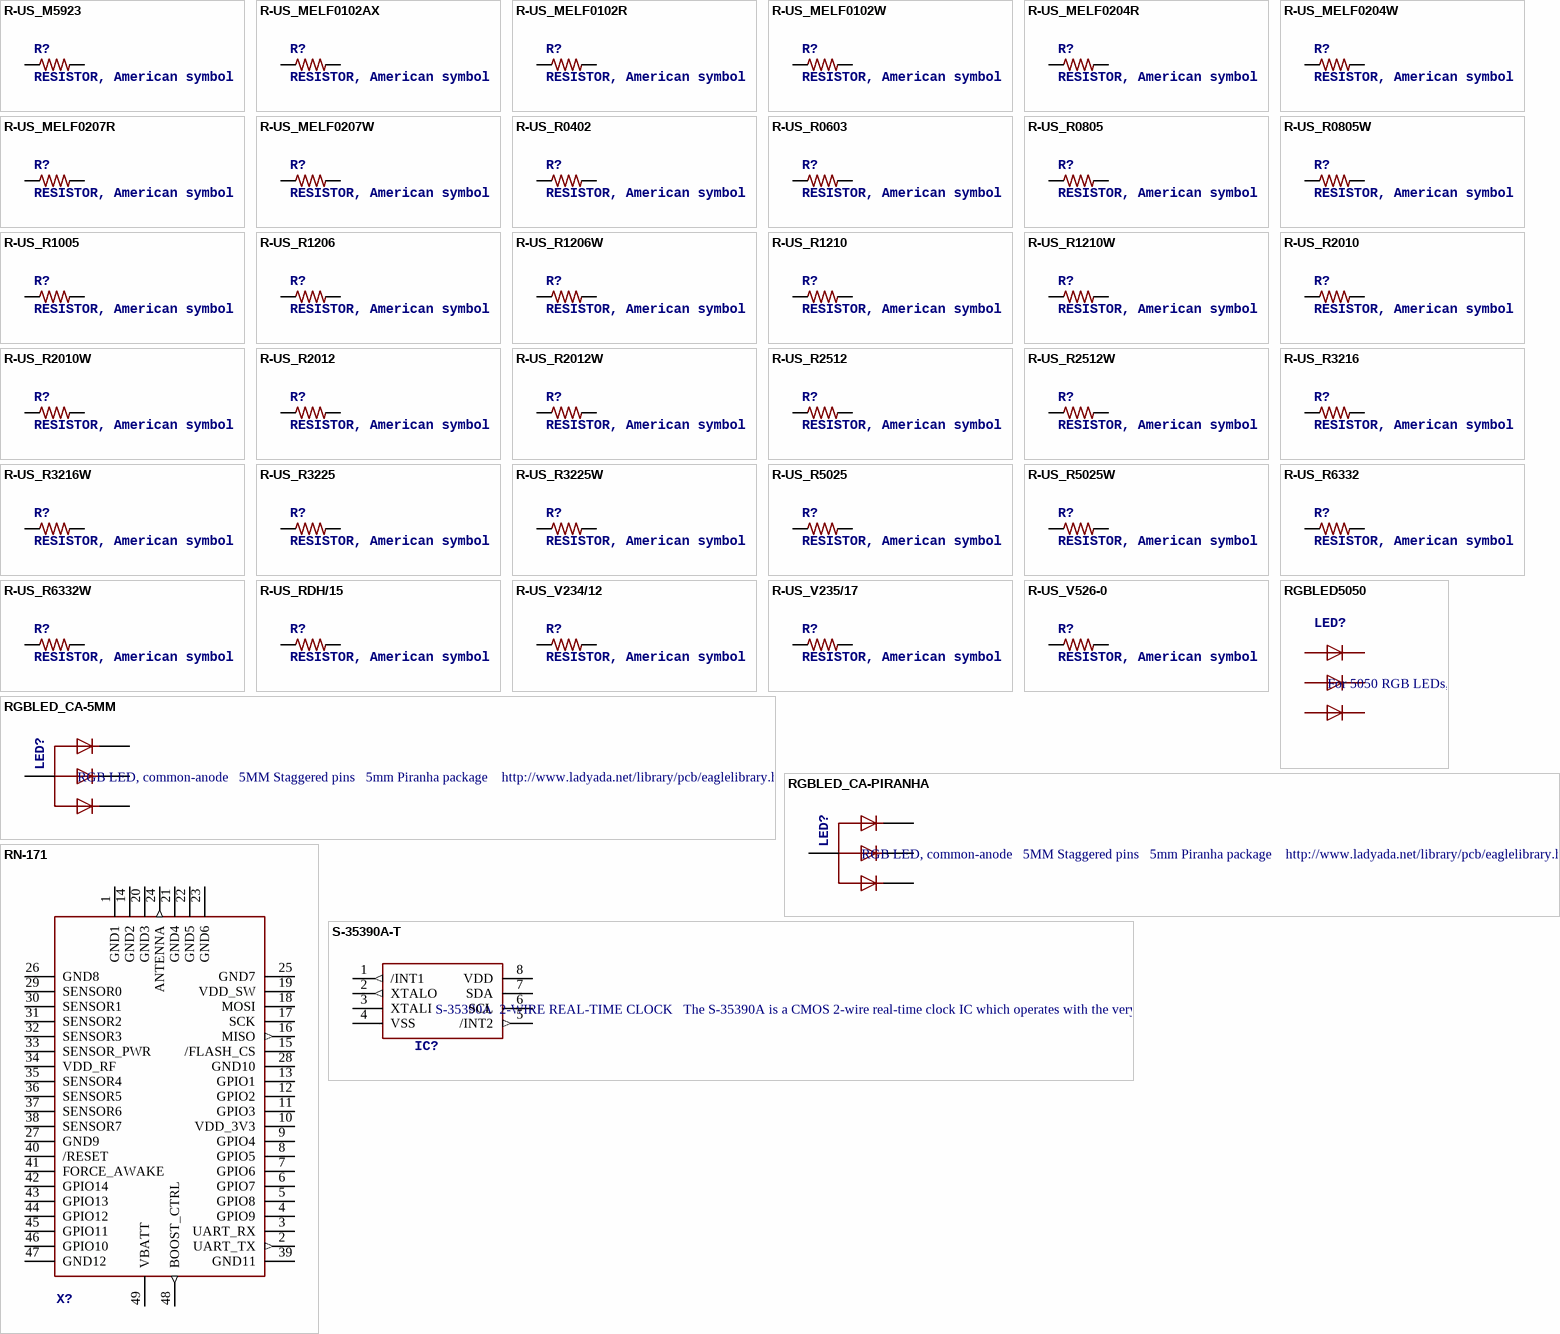
[diagram p26: symbols R-US_M5923 to S-35390A-T]

## R-US_M5923
designator R?, comment RESISTOR, American symbol
footprint M5923
pins: 1, 2

## R-US_MELF0102AX
designator R?, comment RESISTOR, American symbol
footprint MINI_MELF-0102AX
pins: 1, 2

## R-US_MELF0102R
designator R?, comment RESISTOR, American symbol
footprint MINI_MELF-0102R
pins: 1, 2

## R-US_MELF0102W
designator R?, comment RESISTOR, American symbol
footprint MINI_MELF-0102W
pins: 1, 2

## R-US_MELF0204R
designator R?, comment RESISTOR, American symbol
footprint MINI_MELF-0204R
pins: 1, 2

## R-US_MELF0204W
designator R?, comment RESISTOR, American symbol
footprint MINI_MELF-0204W
pins: 1, 2

## R-US_MELF0207R
designator R?, comment RESISTOR, American symbol
footprint MINI_MELF-0207R
pins: 1, 2

## R-US_MELF0207W
designator R?, comment RESISTOR, American symbol
footprint MINI_MELF-0207W
pins: 1, 2

## R-US_R0402
designator R?, comment RESISTOR, American symbol
footprint R0402
pins: 1, 2

## R-US_R0603
designator R?, comment RESISTOR, American symbol
footprint R0603
pins: 1, 2

## R-US_R0805
designator R?, comment RESISTOR, American symbol
footprint R0805
pins: 1, 2

## R-US_R0805W
designator R?, comment RESISTOR, American symbol
footprint R0805W
pins: 1, 2

## R-US_R1005
designator R?, comment RESISTOR, American symbol
footprint R1005
pins: 1, 2

## R-US_R1206
designator R?, comment RESISTOR, American symbol
footprint R1206
pins: 1, 2

## R-US_R1206W
designator R?, comment RESISTOR, American symbol
footprint R1206W
pins: 1, 2

## R-US_R1210
designator R?, comment RESISTOR, American symbol
footprint R1210
pins: 1, 2

## R-US_R1210W
designator R?, comment RESISTOR, American symbol
footprint R1210W
pins: 1, 2

## R-US_R2010
designator R?, comment RESISTOR, American symbol
footprint R2010
pins: 1, 2

## R-US_R2010W
designator R?, comment RESISTOR, American symbol
footprint R2010W
pins: 1, 2

## R-US_R2012
designator R?, comment RESISTOR, American symbol
footprint R2012
pins: 1, 2

## R-US_R2012W
designator R?, comment RESISTOR, American symbol
footprint R2012W
pins: 1, 2

## R-US_R2512
designator R?, comment RESISTOR, American symbol
footprint R2512
pins: 1, 2

## R-US_R2512W
designator R?, comment RESISTOR, American symbol
footprint R2512W
pins: 1, 2

## R-US_R3216
designator R?, comment RESISTOR, American symbol
footprint R3216
pins: 1, 2

## R-US_R3216W
designator R?, comment RESISTOR, American symbol
footprint R3216W
pins: 1, 2

## R-US_R3225
designator R?, comment RESISTOR, American symbol
footprint R3225
pins: 1, 2

## R-US_R3225W
designator R?, comment RESISTOR, American symbol
footprint R3225W
pins: 1, 2

## R-US_R5025
designator R?, comment RESISTOR, American symbol
footprint R5025
pins: 1, 2

## R-US_R5025W
designator R?, comment RESISTOR, American symbol
footprint R5025W
pins: 1, 2

## R-US_R6332
designator R?, comment RESISTOR, American symbol
footprint R6332
pins: 1, 2

## R-US_R6332W
designator R?, comment RESISTOR, American symbol
footprint R6332W
pins: 1, 2

## R-US_RDH/15
designator R?, comment RESISTOR, American symbol
footprint RDH/15
pins: 1, 2

## R-US_V234/12
designator R?, comment RESISTOR, American symbol
footprint V234/12
pins: 1, 2

## R-US_V235/17
designator R?, comment RESISTOR, American symbol
footprint V235/17
pins: 1, 2

## R-US_V526-0
designator R?, comment RESISTOR, American symbol
footprint V526-0
pins: 1, 2

## RGBLED5050
designator LED?, comment For 5050 RGB LEDs, the order of the LEDs may vary from one manufacturer to another!
footprint RGBLED5050
pins: 1 GREEN_A, 2 RED_A, 3 BLUE_A, 4 BLUE_C, 5 RED_C, 6 GREEN_C

## RGBLED_CA-5MM
designator LED?, comment RGB LED, common-anode   5MM Staggered pins   5mm Piranha package    http://www.ladyada.net/library/pcb/eaglelibrary.html
footprint LED5MMRGB
pins: 1 RED, 2 VCC, 3 GREEN, 4 BLUE

## RGBLED_CA-PIRANHA
designator LED?, comment RGB LED, common-anode   5MM Staggered pins   5mm Piranha package    http://www.ladyada.net/library/pcb/eaglelibrary.html
footprint PIRANHA5MM
pins: 1 BLUE, 2 RED, 3 GREEN, 4 VCC

## RN-171
designator X?
footprint RN-171
pins: 1 GND1 (power), 2 UART_TX (out), 3 UART_RX, 4 GPIO9, 5 GPIO8, 6 GPIO7, 7 GPIO6, 8 GPIO5, 9 GPIO4, 10 VDD_3V3 (power), 11 GPIO3, 12 GPIO2, 13 GPIO1, 14 GND2 (power), 15 /FLASH_CS, 16 MISO (out), 17 SCK, 18 MOSI, 19 VDD_SW, 20 GND3 (power), 21 GND4 (power), 22 GND5 (power), 23 GND6 (power), 24 ANTENNA (out), 25 GND7 (power), 26 GND8 (power), 27 GND9 (power), 28 GND10 (power), 29 SENSOR0, 30 SENSOR1, 31 SENSOR2, 32 SENSOR3, 33 SENSOR_PWR (power), 34 VDD_RF (power), 35 SENSOR4, 36 SENSOR5, 37 SENSOR6, 38 SENSOR7, 39 GND11 (power), 40 /RESET, 41 FORCE_AWAKE, 42 GPIO14, 43 GPIO13, 44 GPIO12, 45 GPIO11, 46 GPIO10, 47 GND12 (power), 48 BOOST_CTRL (out), 49 VBATT

## S-35390A-T
designator IC?, comment S-35390A  2-WIRE REAL-TIME CLOCK   The S-35390A is a CMOS 2-wire real-time clock IC which operates with the very low current consumption and in the wide range of operation voltage. The operation voltage is 1.3 V to 5.5 V so that this IC can be used for various power supplies from main supply to backup battery. Due to the 0.25 ?A current consumption and wide range of power supply voltage at time keeping, this IC makes the battery life longer. In the system which operates with a backup battery, the included free registers can be used as the function for user?s backup memory
footprint TSSOP-8
pins: 1 /INT1 (out), 2 XTALO (out), 3 XTALI, 4 VSS (power), 5 /INT2 (out), 6 SCL, 7 SDA, 8 VDD (power)

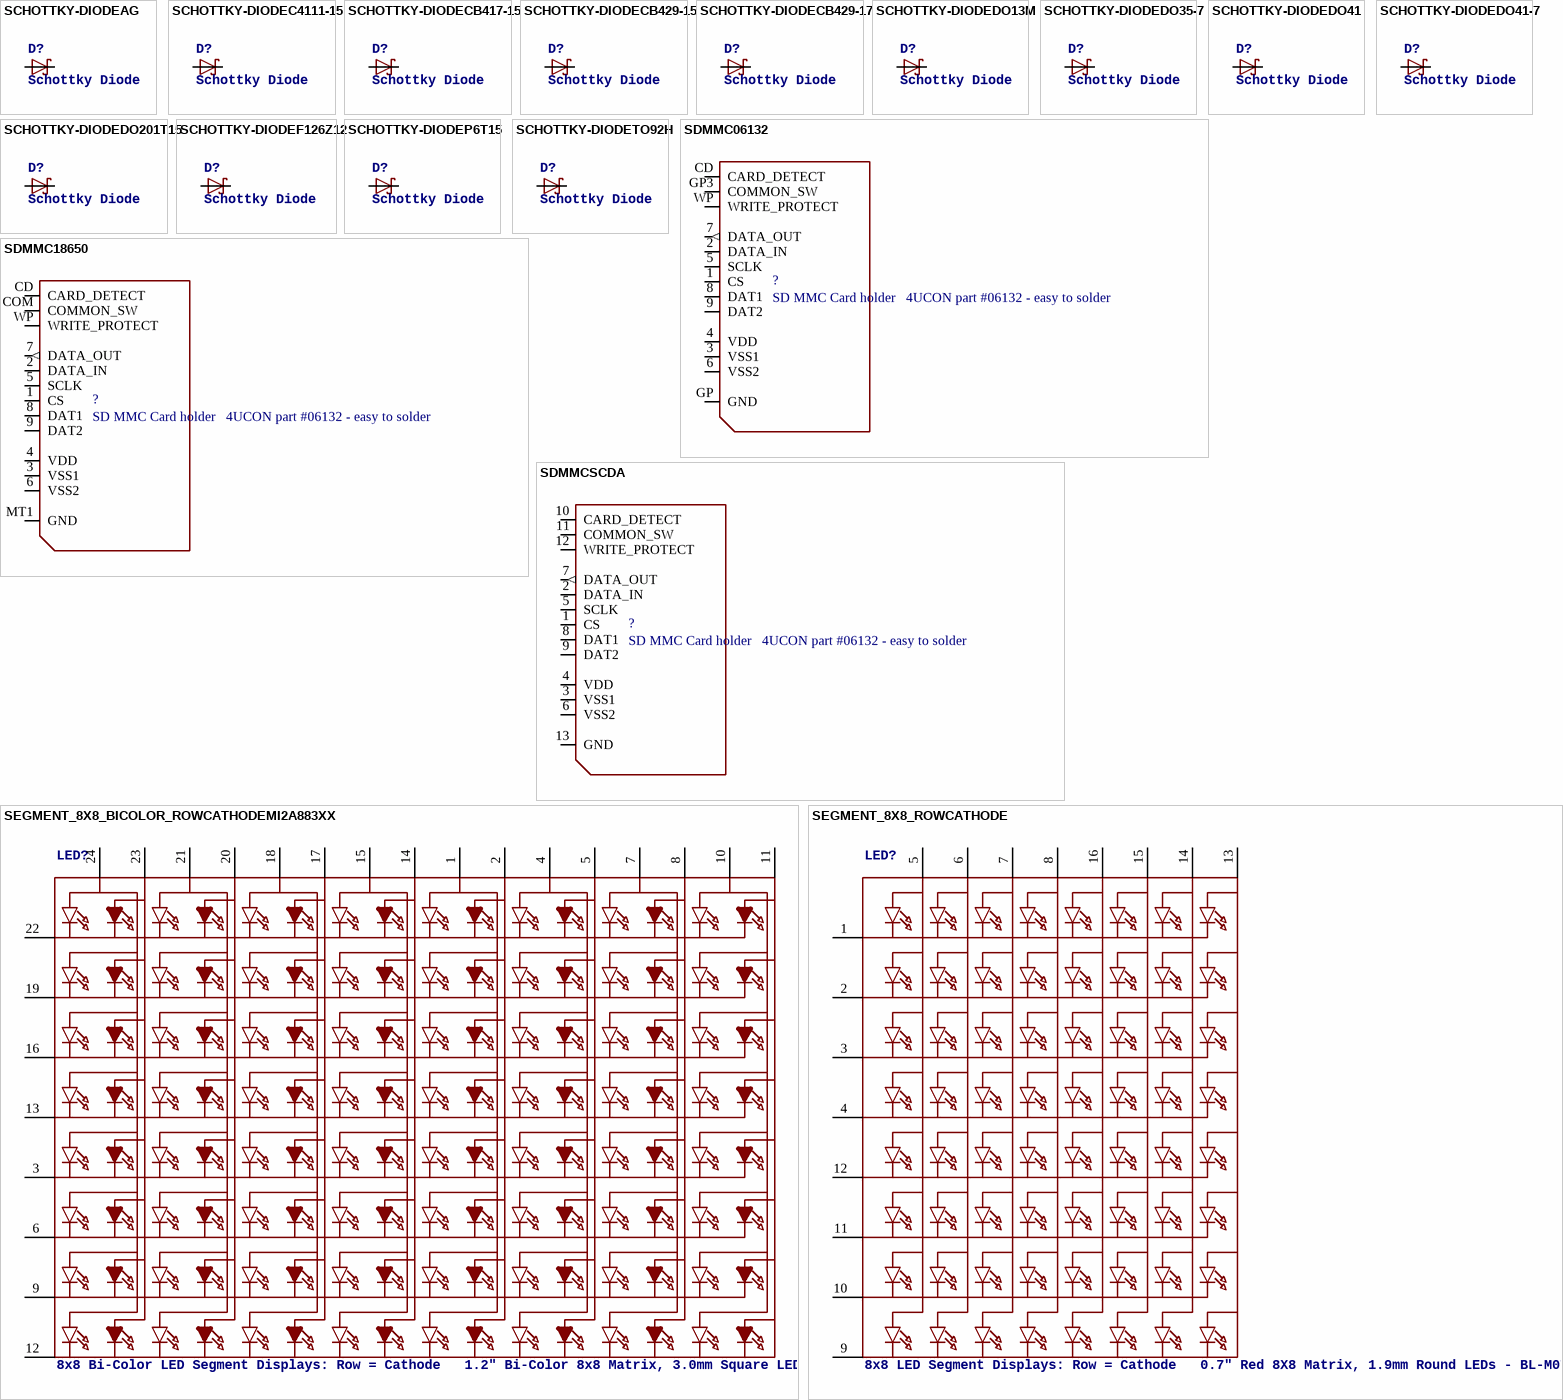
[diagram p27: symbols SCHOTTKY-DIODEAG to SEGMENT_8X8_ROWCATHODE]

## SCHOTTKY-DIODEAG
designator D?, comment Schottky Diode
footprint AG
pins: A, C

## SCHOTTKY-DIODEC4111-15
designator D?, comment Schottky Diode
footprint C4111-15
pins: A, C

## SCHOTTKY-DIODECB417-15
designator D?, comment Schottky Diode
footprint CB417-15
pins: A, C

## SCHOTTKY-DIODECB429-15
designator D?, comment Schottky Diode
footprint CB429-15
pins: A, C

## SCHOTTKY-DIODECB429-17
designator D?, comment Schottky Diode
footprint CB429-17
pins: A, C

## SCHOTTKY-DIODEDO13M
designator D?, comment Schottky Diode
footprint DO13M
pins: A, C

## SCHOTTKY-DIODEDO35-7
designator D?, comment Schottky Diode
footprint DO35-7
pins: A, C

## SCHOTTKY-DIODEDO41
designator D?, comment Schottky Diode
footprint DO41-10
pins: A, C

## SCHOTTKY-DIODEDO41-7
designator D?, comment Schottky Diode
footprint DO41-7
pins: A, C

## SCHOTTKY-DIODEDO201T15
designator D?, comment Schottky Diode
footprint DO201T15
pins: A, C

## SCHOTTKY-DIODEF126Z12
designator D?, comment Schottky Diode
footprint F126Z12
pins: A, C

## SCHOTTKY-DIODEP6T15
designator D?, comment Schottky Diode
footprint P6T15
pins: A, C

## SCHOTTKY-DIODETO92H
designator D?, comment Schottky Diode
footprint TO92H
pins: 1 A, 2 C

## SDMMC06132
designator ?, comment SD MMC Card holder   4UCON part #06132 - easy to solder
footprint 06132
pins: 1 CS, 2 DATA_IN, 3 VSS1 (oe), 4 VDD (oe), 5 SCLK, 6 VSS2 (oe), 7 DATA_OUT (out), 8 DAT1, 9 DAT2, CD CARD_DETECT, GP GND (oe), GP3 COMMON_SW, WP WRITE_PROTECT

## SDMMC18650
designator ?, comment SD MMC Card holder   4UCON part #06132 - easy to solder
footprint SDCARD
pins: 1 CS, 2 DATA_IN, 3 VSS1 (oe), 4 VDD (oe), 5 SCLK, 6 VSS2 (oe), 7 DATA_OUT (out), 8 DAT1, 9 DAT2, CD CARD_DETECT, COM COMMON_SW, MT1 GND (oe), WP WRITE_PROTECT

## SDMMCSCDA
designator ?, comment SD MMC Card holder   4UCON part #06132 - easy to solder
footprint SCDA
pins: 1 CS, 2 DATA_IN, 3 VSS1 (oe), 4 VDD (oe), 5 SCLK, 6 VSS2 (oe), 7 DATA_OUT (out), 8 DAT1, 9 DAT2, 10 CARD_DETECT, 11 COMMON_SW, 12 WRITE_PROTECT, 13 GND (oe)

## SEGMENT_8X8_BICOLOR_ROWCATHODEMI2A883XX
designator LED?, comment 8x8 Bi-Color LED Segment Displays: Row = Cathode   1.2" Bi-Color 8x8 Matrix, 3.0mm Square LEDs - BL-M12A883XX
footprint SEGMENT_BICOL_BL-M12A883XX
pins: 1 A9, 2 A10, 3 K5, 4 A11, 5 A12, 6 K6, 7 A13, 8 A14, 9 K7, 10 A15, 11 A16, 12 K8, 13 K4, 14 A8, 15 A7, 16 K3, 17 A6, 18 A5, 19 K2, 20 A4, 21 A3, 22 K1, 23 A2, 24 A1

## SEGMENT_8X8_ROWCATHODE
designator LED?, comment 8x8 LED Segment Displays: Row = Cathode   0.7" Red 8X8 Matrix, 1.9mm Round LEDs - BL-M07C881UR   1.2" Red 8x8 Matrix, 3.0mm Round LEDs - BL-M12A881UR   1.2" Red 8x8 Matrix, 3.0mm Square LEDs - BL-M12A883
footprint SEGMENT_BL-M07C881UR
pins: 1 K1, 2 K2, 3 K3, 4 K4, 5 A1, 6 A2, 7 A3, 8 A4, 9 K8, 10 K7, 11 K6, 12 K5, 13 A8, 14 A7, 15 A6, 16 A5

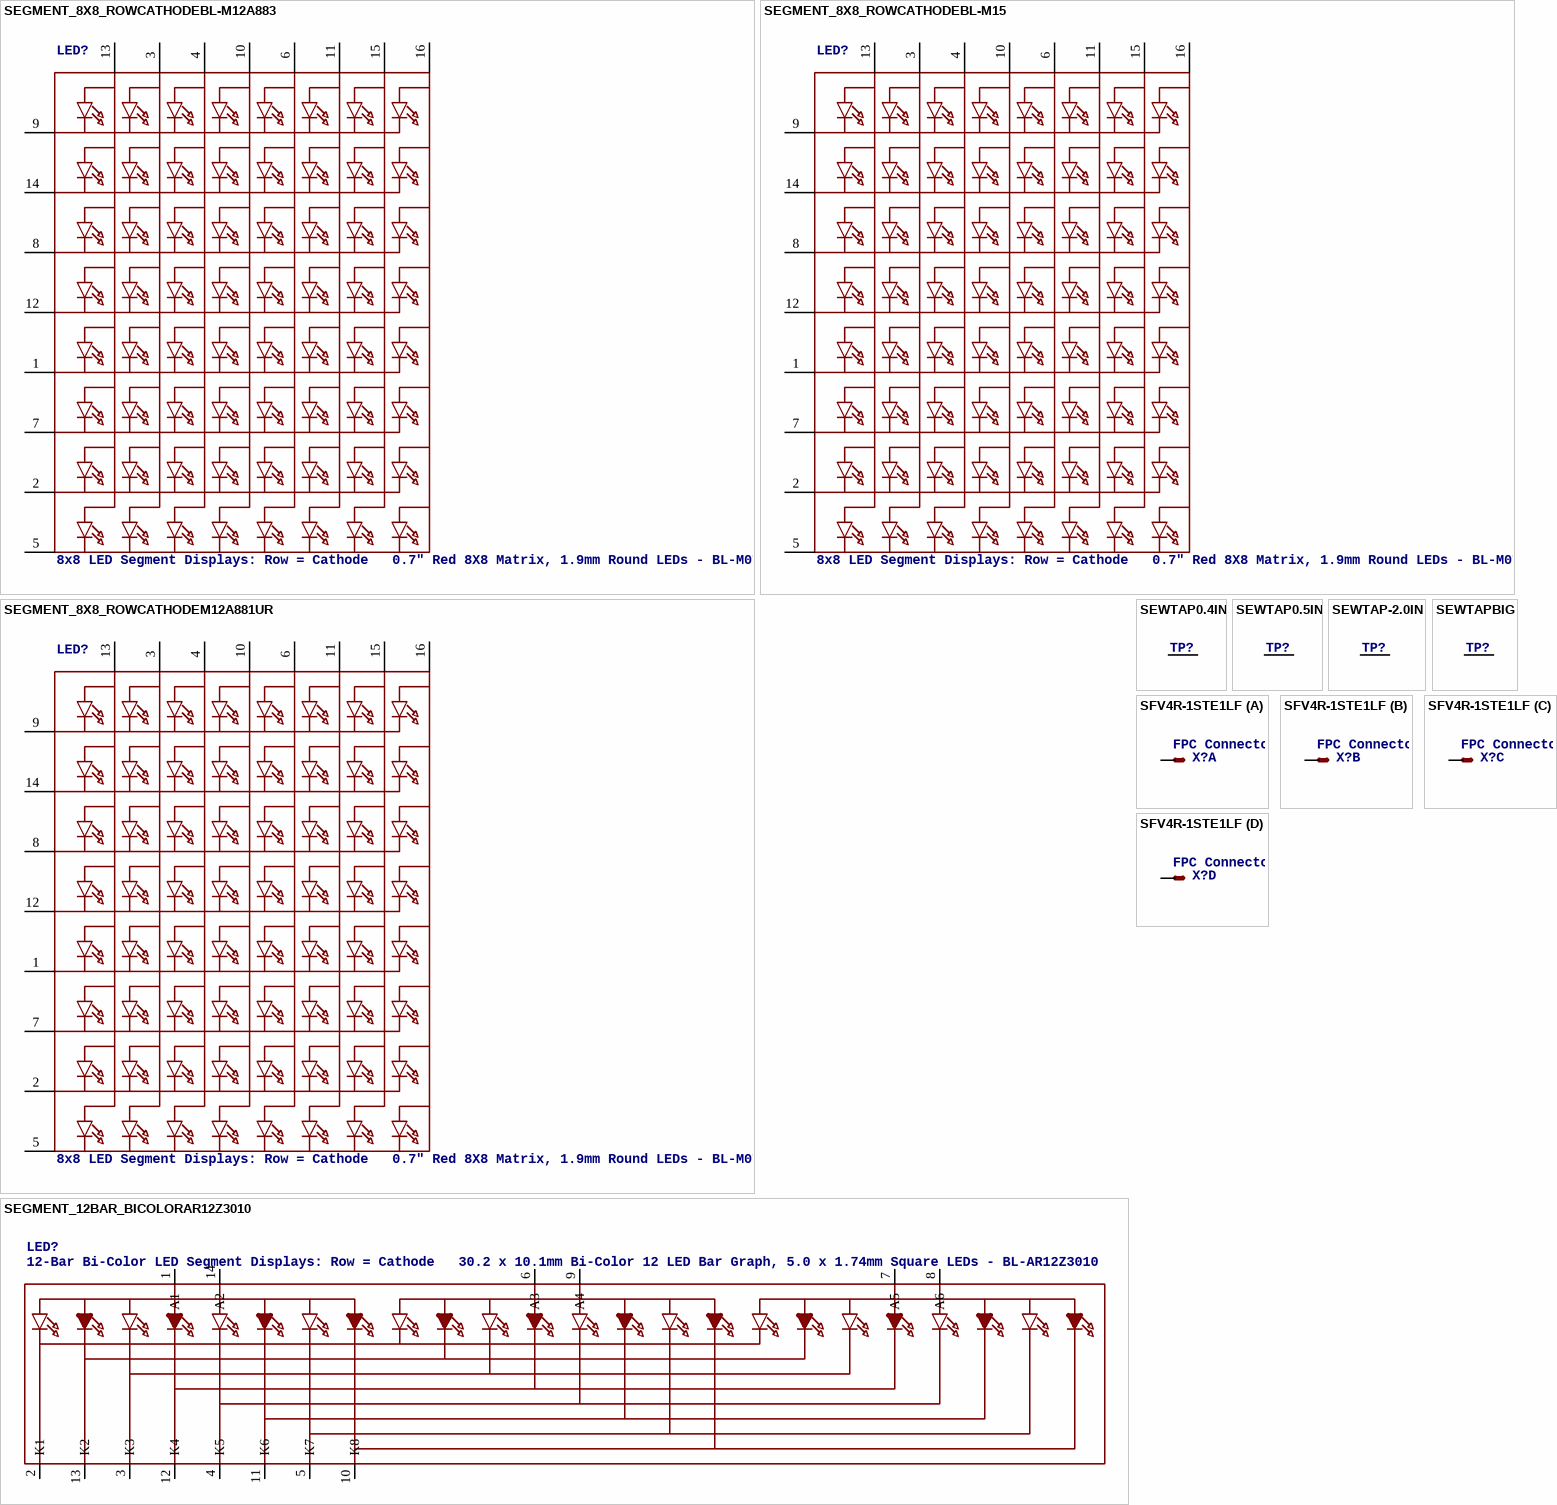
[diagram p28: symbols SEGMENT_8X8_ROWCATHODEBL-M12A883 to SFV4R-1STE1LF]

## SEGMENT_8X8_ROWCATHODEBL-M12A883
designator LED?, comment 8x8 LED Segment Displays: Row = Cathode   0.7" Red 8X8 Matrix, 1.9mm Round LEDs - BL-M07C881UR   1.2" Red 8x8 Matrix, 3.0mm Round LEDs - BL-M12A881UR   1.2" Red 8x8 Matrix, 3.0mm Square LEDs - BL-M12A883
footprint SEGMENT_BL-M12A883
pins: 1 K5, 2 K7, 3 A2, 4 A3, 5 K8, 6 A5, 7 K6, 8 K3, 9 K1, 10 A4, 11 A6, 12 K4, 13 A1, 14 K2, 15 A7, 16 A8

## SEGMENT_8X8_ROWCATHODEBL-M15
designator LED?, comment 8x8 LED Segment Displays: Row = Cathode   0.7" Red 8X8 Matrix, 1.9mm Round LEDs - BL-M07C881UR   1.2" Red 8x8 Matrix, 3.0mm Round LEDs - BL-M12A881UR   1.2" Red 8x8 Matrix, 3.0mm Square LEDs - BL-M12A883
footprint SEGMENT_BL-M15A881
pins: 1 K5, 2 K7, 3 A2, 4 A3, 5 K8, 6 A5, 7 K6, 8 K3, 9 K1, 10 A4, 11 A6, 12 K4, 13 A1, 14 K2, 15 A7, 16 A8

## SEGMENT_8X8_ROWCATHODEM12A881UR
designator LED?, comment 8x8 LED Segment Displays: Row = Cathode   0.7" Red 8X8 Matrix, 1.9mm Round LEDs - BL-M07C881UR   1.2" Red 8x8 Matrix, 3.0mm Round LEDs - BL-M12A881UR   1.2" Red 8x8 Matrix, 3.0mm Square LEDs - BL-M12A883
footprint SEGMENT_BL-M12A881UR
pins: 1 K5, 2 K7, 3 A2, 4 A3, 5 K8, 6 A5, 7 K6, 8 K3, 9 K1, 10 A4, 11 A6, 12 K4, 13 A1, 14 K2, 15 A7, 16 A8

## SEGMENT_12BAR_BICOLORAR12Z3010
designator LED?, comment 12-Bar Bi-Color LED Segment Displays: Row = Cathode   30.2 x 10.1mm Bi-Color 12 LED Bar Graph, 5.0 x 1.74mm Square LEDs - BL-AR12Z3010
footprint SEGMENT_BICOL_BL-AR12Z3010
pins: 1 A1, 2 K1, 3 K3, 4 K5, 5 K7, 6 A3, 7 A5, 8 A6, 9 A4, 10 K8, 11 K6, 12 K4, 13 K2, 14 A2

## SEWTAP0.4IN
designator TP?
footprint SEWINGTAP_0.4
pins: TAP SEW

## SEWTAP0.5IN
designator TP?
footprint SEWINGTAP_0.5
pins: TAP SEW

## SEWTAP-2.0IN
designator TP?
footprint SEWINGTAP_2.0
pins: P$1 SEW

## SEWTAPBIG
designator TP?
footprint BIGTAP
pins: P$1 SEW

## SFV4R-1STE1LF
designator X?, comment FPC Connector ZIF for SMT 0.5mm   SFV4R-1STE1LF Useful as the LED backlight connector for a PSP display
footprint SFV4R-1STE1LF
part A pins: 1 S
part B pins: 2 S
part C pins: 3 S
part D pins: 4 S

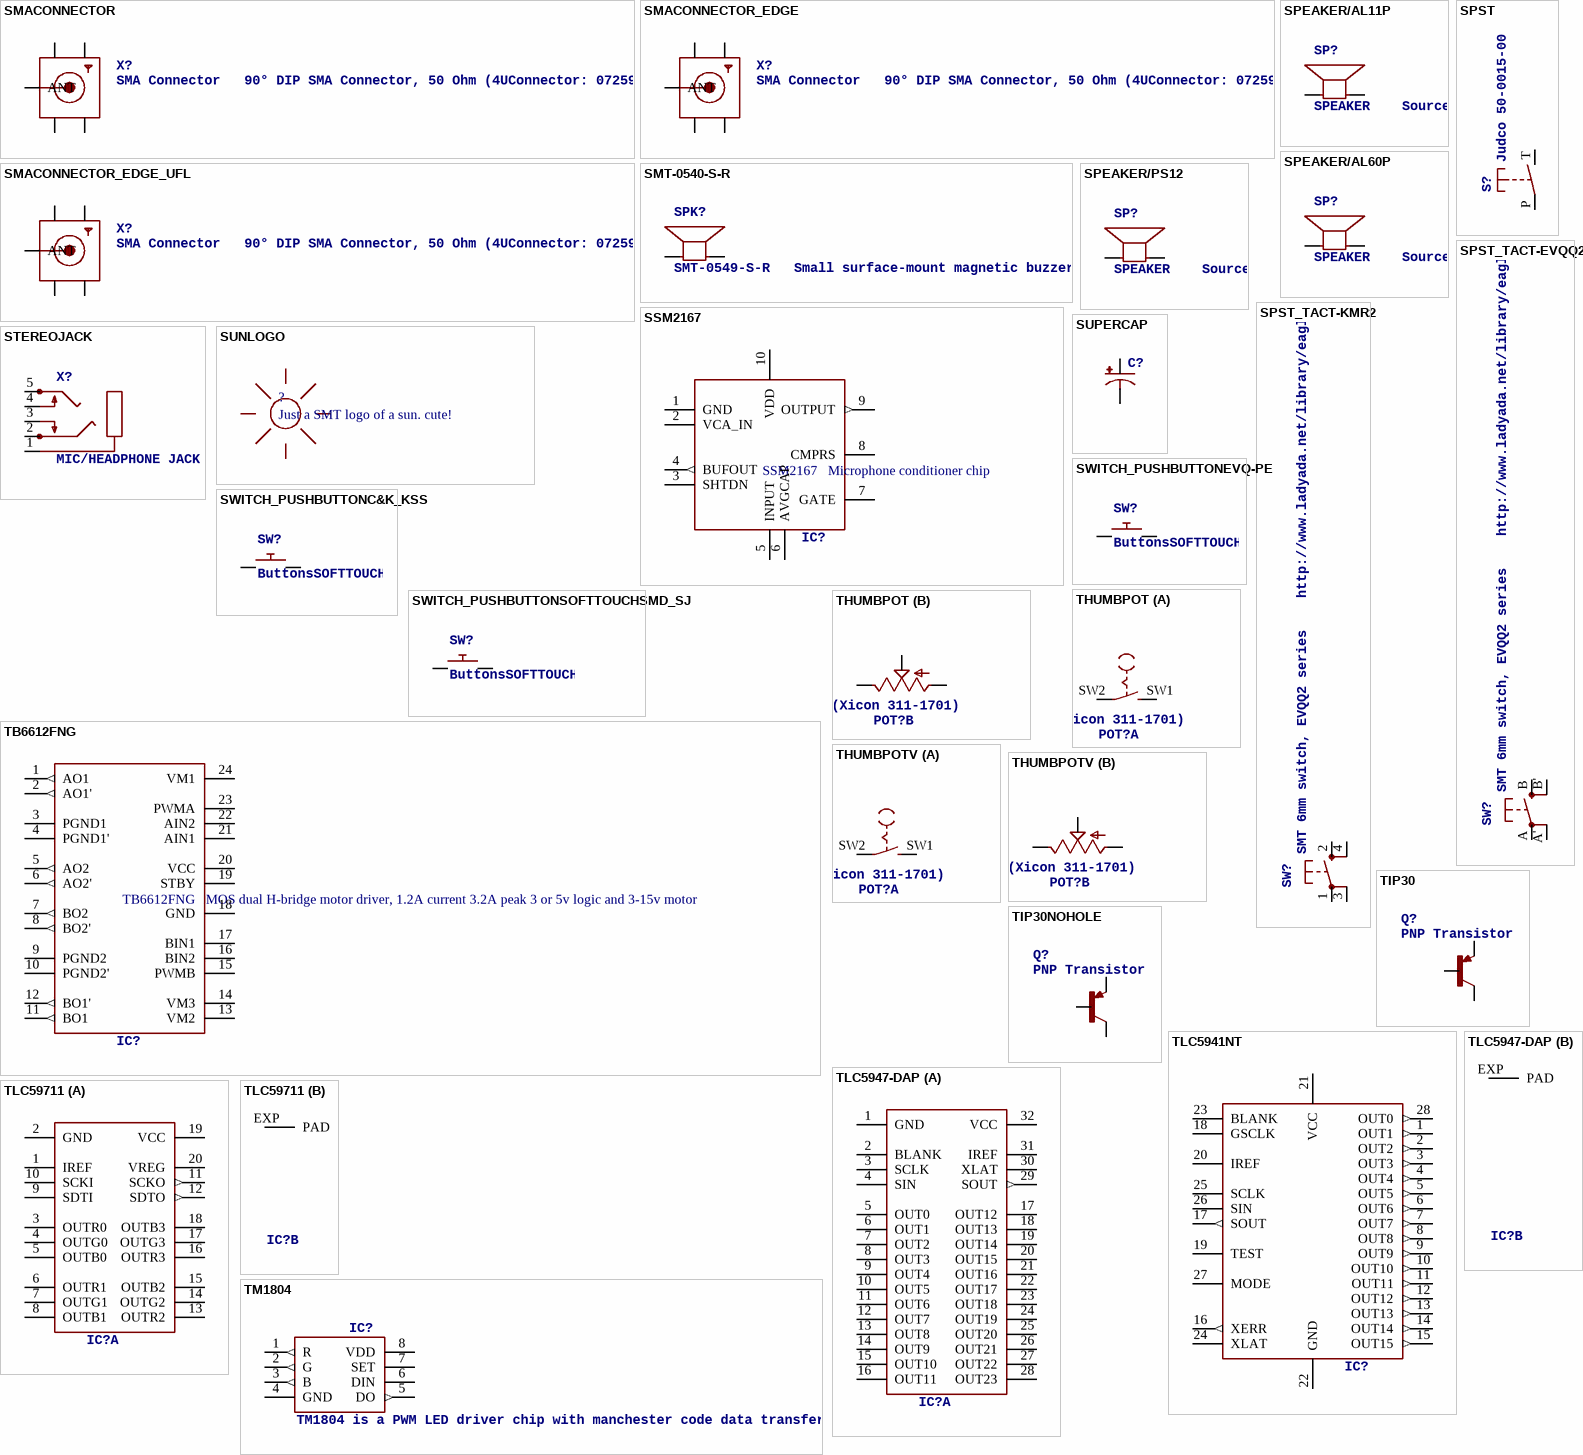
[diagram p29: symbols SMACONNECTOR to TM1804]

## SMACONNECTOR
designator X?, comment SMA Connector   90° DIP SMA Connector, 50 Ohm (4UConnector: 07259)
footprint SMA90_DIP
pins: ANTENNA ANT, GND1 (power), GND2 (power), GND3 (power), GND4 (power)

## SMACONNECTOR_EDGE
designator X?, comment SMA Connector   90° DIP SMA Connector, 50 Ohm (4UConnector: 07259)
footprint SMA_EDGELAUNCH
pins: GND@1 GND4 (power), GND@2 GND3 (power), GND@3 GND2 (power), GND@4 GND1 (power), P ANT

## SMACONNECTOR_EDGE_UFL
designator X?, comment SMA Connector   90° DIP SMA Connector, 50 Ohm (4UConnector: 07259)
footprint SMA_EDGELAUNCH_UFL
pins: GND@1 GND1 (power), GND@2 GND2 (power), GND@3 GND3 (power), GND@4 GND4 (power), P ANT

## SMT-0540-S-R
designator SPK?, comment SMT-0549-S-R   Small surface-mount magnetic buzzer
footprint SMT-0540-S-R
pins: + -, - +

## SPEAKER/AL11P
designator SP?, comment SPEAKER    Source: Buerklin   Added PS12 (for part # PS1240 piezo)    http://www.ladyada.net/library/pcb/eaglelibrary.html
footprint AL11P
pins: +, -

## SPEAKER/AL60P
designator SP?, comment SPEAKER    Source: Buerklin   Added PS12 (for part # PS1240 piezo)    http://www.ladyada.net/library/pcb/eaglelibrary.html
footprint AL60P
pins: 1 +, 2 -

## SPEAKER/PS12
designator SP?, comment SPEAKER    Source: Buerklin   Added PS12 (for part # PS1240 piezo)    http://www.ladyada.net/library/pcb/eaglelibrary.html
footprint PS12
pins: P$1 +, P$2 -

## SPST
designator S?, comment Judco 50-0015-00
footprint JUDCOSPST
pins: P, T S

## SPST_TACT-EVQQ2
designator SW?, comment SMT 6mm switch, EVQQ2 series    http://www.ladyada.net/library/eagle
footprint EVQ-Q2
pins: A P, A' P1, B S, B' S1

## SPST_TACT-KMR2
designator SW?, comment SMT 6mm switch, EVQQ2 series    http://www.ladyada.net/library/eagle
footprint KMR2
pins: 1 P, 2 S, 3 P1, 4 S1

## SSM2167
designator IC?, comment SSM2167   Microphone conditioner chip
footprint MSOP10
pins: 1 GND (power), 2 VCA_IN, 3 SHTDN, 4 BUFOUT (out), 5 INPUT, 6 AVGCAP, 7 GATE, 8 CMPRS, 9 OUTPUT (out), 10 VDD (power)

## STEREOJACK
designator X?, comment MIC/HEADPHONE JACK   Stereo jack with two switches. Kycon STX3100, CUI SJ1-3555NG and/or 4UCon 05544
footprint STX3100
pins: 1, 2, 3, 4, 5

## SUNLOGO
designator ?, comment Just a SMT logo of a sun. cute!
footprint SUN

## SUPERCAP
designator C?
footprint 414-VA5R
pins: +, -

## SWITCH_PUSHBUTTONC&K_KSS
designator SW?, comment ButtonsSOFTTOUCHSMD_SJ - Soft touch temporary push button (Super Junk Akihabara)    Compatible with SKPMANE010 [Mouser: 688-SKPMAN]   C&K_KSS = Digikey: KSS221GLFS
footprint BTN_CK_KSS
pins: P$1, P$2

## SWITCH_PUSHBUTTONEVQ-PE
designator SW?, comment ButtonsSOFTTOUCHSMD_SJ - Soft touch temporary push button (Super Junk Akihabara)    Compatible with SKPMANE010 [Mouser: 688-SKPMAN]   C&K_KSS = Digikey: KSS221GLFS
footprint TACT_PANA-EVQ
pins: P$1, P$2